# Altium integrated library ST Microcontroller 16-Bit.IntLib: 21 symbols (part 1 of 2)
Pins are listed as number, name and electrical type; pins without a type are passive.

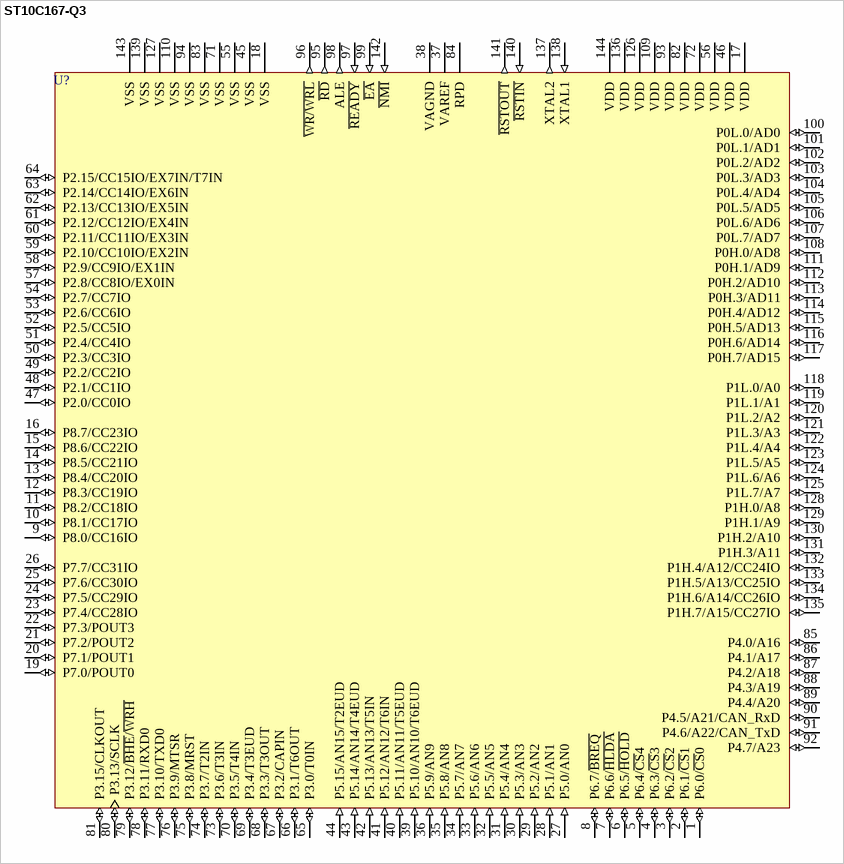
[diagram p0: symbol ST10C167-Q3]

## ST10C167-Q3
designator U?
16-Bit MCU with 32k ROM, 144-Pin PQFP; Published: 26-May-2004; DatasheetDocument: Jan-2002; PackageDocument: Jun-2002; PackageReference: PQFP144; Publisher: Altium Limited; Code_IPC: QFP28X28-144
footprint PQFP144 (QFP; 144 Leads; Body 28 x 28 mm; Pitch 0.65 mm)
pins: 1 P6.0/~{CS}0 (io), 2 P6.1/~{CS}1 (io), 3 P6.2/~{CS}2 (io), 4 P6.3/~{CS}3 (io), 5 P6.4/~{CS}4 (io), 6 P6.5/~{HOLD} (io), 7 P6.6/~{HLDA} (io), 8 P6.7/~{BREQ} (io), 9 P8.0/CC16IO (io), 10 P8.1/CC17IO (io), 11 P8.2/CC18IO (io), 12 P8.3/CC19IO (io), 13 P8.4/CC20IO (io), 14 P8.5/CC21IO (io), 15 P8.6/CC22IO (io), 16 P8.7/CC23IO (io), 17 VDD (power), 18 VSS (power), 19 P7.0/POUT0 (io), 20 P7.1/POUT1 (io), 21 P7.2/POUT2 (io), 22 P7.3/POUT3 (io), 23 P7.4/CC28IO (io), 24 P7.5/CC29IO (io), 25 P7.6/CC30IO (io), 26 P7.7/CC31IO (io), 27 P5.0/AN0 (in), 28 P5.1/AN1 (in), 29 P5.2/AN2 (in), 30 P5.3/AN3 (in), 31 P5.4/AN4 (in), 32 P5.5/AN5 (in), 33 P5.6/AN6 (in), 34 P5.7/AN7 (in), 35 P5.8/AN8 (in), 36 P5.9/AN9 (in), 37 VAREF (power), 38 VAGND (power), 39 P5.10/AN10/T6EUD (in), 40 P5.11/AN11/T5EUD (in), 41 P5.12/AN12/T6IN (in), 42 P5.13/AN13/T5IN (in), 43 P5.14/AN14/T4EUD (in), 44 P5.15/AN15/T2EUD (in), 45 VSS (power), 46 VDD (power), 47 P2.0/CC0IO (io), 48 P2.1/CC1IO (io), 49 P2.2/CC2IO (io), 50 P2.3/CC3IO (io), 51 P2.4/CC4IO (io), 52 P2.5/CC5IO (io), 53 P2.6/CC6IO (io), 54 P2.7/CC7IO (io), 55 VSS (power), 56 VDD (power), 57 P2.8/CC8IO/EX0IN (io), 58 P2.9/CC9IO/EX1IN (io), 59 P2.10/CC10IO/EX2IN (io), 60 P2.11/CC11IO/EX3IN (io), 61 P2.12/CC12IO/EX4IN (io), 62 P2.13/CC13IO/EX5IN (io), 63 P2.14/CC14IO/EX6IN (io), 64 P2.15/CC15IO/EX7IN/T7IN (io), 65 P3.0/T0IN (io), 66 P3.1/T6OUT (io), 67 P3.2/CAPIN (io), 68 P3.3/T3OUT (io), 69 P3.4/T3EUD (io), 70 P3.5/T4IN (io), 71 VSS (power), 72 VDD (power), 73 P3.6/T3IN (io), 74 P3.7/T2IN (io), 75 P3.8/MRST (io), 76 P3.9/MTSR (io), 77 P3.10/TXD0 (io), 78 P3.11/RXD0 (io), 79 P3.12/~{BHE}/~{WRH} (io), 80 P3.13/SCLK (io), 81 P3.15/CLKOUT (io), 82 VDD (power), 83 VSS (power), 84 RPD (power), 85 P4.0/A16 (io), 86 P4.1/A17 (io), 87 P4.2/A18 (io), 88 P4.3/A19 (io), 89 P4.4/A20 (io), 90 P4.5/A21/CAN_RxD (io), 91 P4.6/A22/CAN_TxD (io), 92 P4.7/A23 (io), 93 VDD (power), 94 VSS (power), 95 ~{RD} (out), 96 ~{WR/WRL} (out), 97 ~{READY} (in), 98 ALE (out), 99 ~{EA} (in), 100 P0L.0/AD0 (io), 101 P0L.1/AD1 (io), 102 P0L.2/AD2 (io), 103 P0L.3/AD3 (io), 104 P0L.4/AD4 (io), 105 P0L.5/AD5 (io), 106 P0L.6/AD6 (io), 107 P0L.7/AD7 (io), 108 P0H.0/AD8 (io), 109 VDD (power), 110 VSS (power), 111 P0H.1/AD9 (io), 112 P0H.2/AD10 (io), 113 P0H.3/AD11 (io), 114 P0H.4/AD12 (io), 115 P0H.5/AD13 (io), 116 P0H.6/AD14 (io), 117 P0H.7/AD15 (io), 118 P1L.0/A0 (io), 119 P1L.1/A1 (io), 120 P1L.2/A2 (io), 121 P1L.3/A3 (io), 122 P1L.4/A4 (io), 123 P1L.5/A5 (io), 124 P1L.6/A6 (io), 125 P1L.7/A7 (io), 126 VDD (power), 127 VSS (power), 128 P1H.0/A8 (io), 129 P1H.1/A9 (io), 130 P1H.2/A10 (io), 131 P1H.3/A11 (io), 132 P1H.4/A12/CC24IO (io), 133 P1H.5/A13/CC25IO (io), 134 P1H.6/A14/CC26IO (io), 135 P1H.7/A15/CC27IO (io), 136 VDD (power), 137 XTAL2 (out), 138 XTAL1 (in), 139 VSS (power), 140 ~{RSTIN} (in), 141 ~{RSTOUT} (out), 142 ~{NMI} (in), 143 VSS (power), 144 VDD (power)

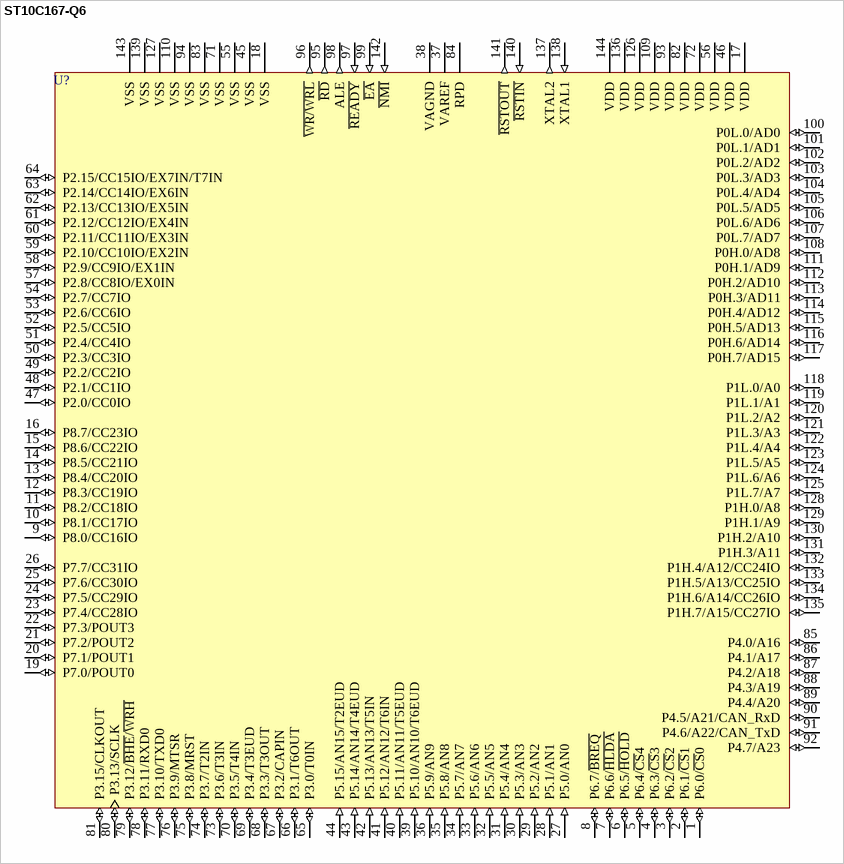
[diagram p1: symbol ST10C167-Q6]

## ST10C167-Q6
designator U?
16-Bit MCU with 32k ROM, 144-Pin PQFP; Published: 26-May-2004; DatasheetDocument: Jan-2002; PackageDocument: Jun-2002; PackageReference: PQFP144; Publisher: Altium Limited; Code_IPC: QFP28X28-144
footprint PQFP144 (QFP; 144 Leads; Body 28 x 28 mm; Pitch 0.65 mm)
pins: 1 P6.0/~{CS}0 (io), 2 P6.1/~{CS}1 (io), 3 P6.2/~{CS}2 (io), 4 P6.3/~{CS}3 (io), 5 P6.4/~{CS}4 (io), 6 P6.5/~{HOLD} (io), 7 P6.6/~{HLDA} (io), 8 P6.7/~{BREQ} (io), 9 P8.0/CC16IO (io), 10 P8.1/CC17IO (io), 11 P8.2/CC18IO (io), 12 P8.3/CC19IO (io), 13 P8.4/CC20IO (io), 14 P8.5/CC21IO (io), 15 P8.6/CC22IO (io), 16 P8.7/CC23IO (io), 17 VDD (power), 18 VSS (power), 19 P7.0/POUT0 (io), 20 P7.1/POUT1 (io), 21 P7.2/POUT2 (io), 22 P7.3/POUT3 (io), 23 P7.4/CC28IO (io), 24 P7.5/CC29IO (io), 25 P7.6/CC30IO (io), 26 P7.7/CC31IO (io), 27 P5.0/AN0 (in), 28 P5.1/AN1 (in), 29 P5.2/AN2 (in), 30 P5.3/AN3 (in), 31 P5.4/AN4 (in), 32 P5.5/AN5 (in), 33 P5.6/AN6 (in), 34 P5.7/AN7 (in), 35 P5.8/AN8 (in), 36 P5.9/AN9 (in), 37 VAREF (power), 38 VAGND (power), 39 P5.10/AN10/T6EUD (in), 40 P5.11/AN11/T5EUD (in), 41 P5.12/AN12/T6IN (in), 42 P5.13/AN13/T5IN (in), 43 P5.14/AN14/T4EUD (in), 44 P5.15/AN15/T2EUD (in), 45 VSS (power), 46 VDD (power), 47 P2.0/CC0IO (io), 48 P2.1/CC1IO (io), 49 P2.2/CC2IO (io), 50 P2.3/CC3IO (io), 51 P2.4/CC4IO (io), 52 P2.5/CC5IO (io), 53 P2.6/CC6IO (io), 54 P2.7/CC7IO (io), 55 VSS (power), 56 VDD (power), 57 P2.8/CC8IO/EX0IN (io), 58 P2.9/CC9IO/EX1IN (io), 59 P2.10/CC10IO/EX2IN (io), 60 P2.11/CC11IO/EX3IN (io), 61 P2.12/CC12IO/EX4IN (io), 62 P2.13/CC13IO/EX5IN (io), 63 P2.14/CC14IO/EX6IN (io), 64 P2.15/CC15IO/EX7IN/T7IN (io), 65 P3.0/T0IN (io), 66 P3.1/T6OUT (io), 67 P3.2/CAPIN (io), 68 P3.3/T3OUT (io), 69 P3.4/T3EUD (io), 70 P3.5/T4IN (io), 71 VSS (power), 72 VDD (power), 73 P3.6/T3IN (io), 74 P3.7/T2IN (io), 75 P3.8/MRST (io), 76 P3.9/MTSR (io), 77 P3.10/TXD0 (io), 78 P3.11/RXD0 (io), 79 P3.12/~{BHE}/~{WRH} (io), 80 P3.13/SCLK (io), 81 P3.15/CLKOUT (io), 82 VDD (power), 83 VSS (power), 84 RPD (power), 85 P4.0/A16 (io), 86 P4.1/A17 (io), 87 P4.2/A18 (io), 88 P4.3/A19 (io), 89 P4.4/A20 (io), 90 P4.5/A21/CAN_RxD (io), 91 P4.6/A22/CAN_TxD (io), 92 P4.7/A23 (io), 93 VDD (power), 94 VSS (power), 95 ~{RD} (out), 96 ~{WR/WRL} (out), 97 ~{READY} (in), 98 ALE (out), 99 ~{EA} (in), 100 P0L.0/AD0 (io), 101 P0L.1/AD1 (io), 102 P0L.2/AD2 (io), 103 P0L.3/AD3 (io), 104 P0L.4/AD4 (io), 105 P0L.5/AD5 (io), 106 P0L.6/AD6 (io), 107 P0L.7/AD7 (io), 108 P0H.0/AD8 (io), 109 VDD (power), 110 VSS (power), 111 P0H.1/AD9 (io), 112 P0H.2/AD10 (io), 113 P0H.3/AD11 (io), 114 P0H.4/AD12 (io), 115 P0H.5/AD13 (io), 116 P0H.6/AD14 (io), 117 P0H.7/AD15 (io), 118 P1L.0/A0 (io), 119 P1L.1/A1 (io), 120 P1L.2/A2 (io), 121 P1L.3/A3 (io), 122 P1L.4/A4 (io), 123 P1L.5/A5 (io), 124 P1L.6/A6 (io), 125 P1L.7/A7 (io), 126 VDD (power), 127 VSS (power), 128 P1H.0/A8 (io), 129 P1H.1/A9 (io), 130 P1H.2/A10 (io), 131 P1H.3/A11 (io), 132 P1H.4/A12/CC24IO (io), 133 P1H.5/A13/CC25IO (io), 134 P1H.6/A14/CC26IO (io), 135 P1H.7/A15/CC27IO (io), 136 VDD (power), 137 XTAL2 (out), 138 XTAL1 (in), 139 VSS (power), 140 ~{RSTIN} (in), 141 ~{RSTOUT} (out), 142 ~{NMI} (in), 143 VSS (power), 144 VDD (power)

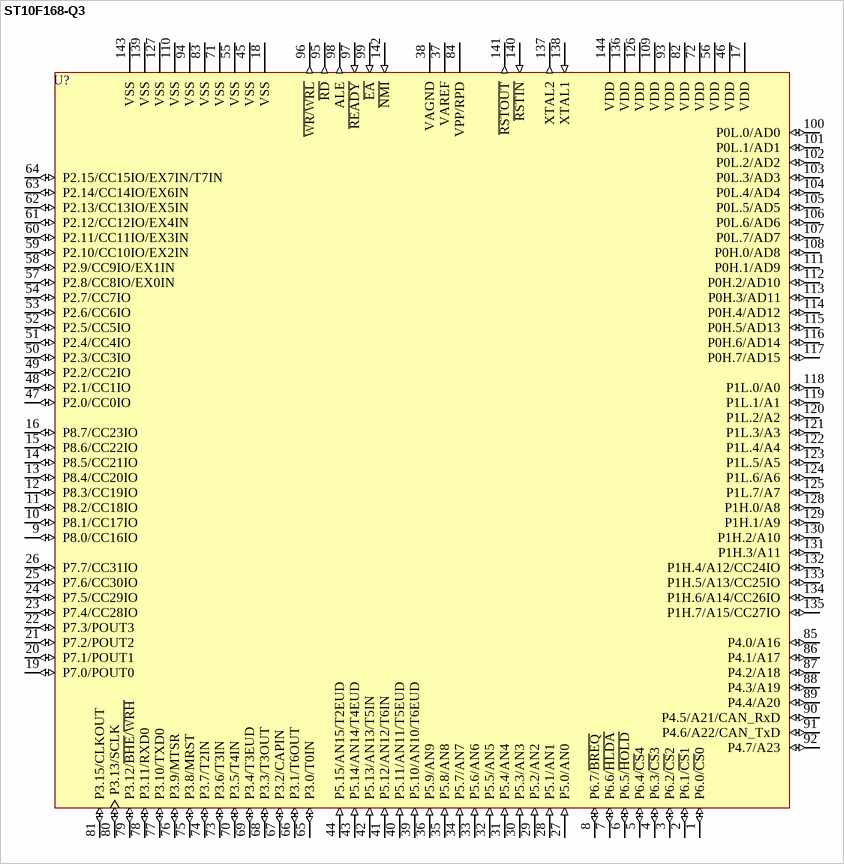
[diagram p2: symbol ST10F168-Q3]

## ST10F168-Q3
designator U?
16-Bit MCU with 256k FLASH Memory and 8k RAM, 144-Pin PQFP; Published: 26-May-2004; DatasheetDocument: Jan-2002; PackageDocument: Jun-2002; PackageReference: PQFP144; Publisher: Altium Limited; Code_IPC: QFP28X28-144
footprint PQFP144 (QFP; 144 Leads; Body 28 x 28 mm; Pitch 0.65 mm)
pins: 1 P6.0/~{CS}0 (io), 2 P6.1/~{CS}1 (io), 3 P6.2/~{CS}2 (io), 4 P6.3/~{CS}3 (io), 5 P6.4/~{CS}4 (io), 6 P6.5/~{HOLD} (io), 7 P6.6/~{HLDA} (io), 8 P6.7/~{BREQ} (io), 9 P8.0/CC16IO (io), 10 P8.1/CC17IO (io), 11 P8.2/CC18IO (io), 12 P8.3/CC19IO (io), 13 P8.4/CC20IO (io), 14 P8.5/CC21IO (io), 15 P8.6/CC22IO (io), 16 P8.7/CC23IO (io), 17 VDD (power), 18 VSS (power), 19 P7.0/POUT0 (io), 20 P7.1/POUT1 (io), 21 P7.2/POUT2 (io), 22 P7.3/POUT3 (io), 23 P7.4/CC28IO (io), 24 P7.5/CC29IO (io), 25 P7.6/CC30IO (io), 26 P7.7/CC31IO (io), 27 P5.0/AN0 (in), 28 P5.1/AN1 (in), 29 P5.2/AN2 (in), 30 P5.3/AN3 (in), 31 P5.4/AN4 (in), 32 P5.5/AN5 (in), 33 P5.6/AN6 (in), 34 P5.7/AN7 (in), 35 P5.8/AN8 (in), 36 P5.9/AN9 (in), 37 VAREF (power), 38 VAGND (power), 39 P5.10/AN10/T6EUD (in), 40 P5.11/AN11/T5EUD (in), 41 P5.12/AN12/T6IN (in), 42 P5.13/AN13/T5IN (in), 43 P5.14/AN14/T4EUD (in), 44 P5.15/AN15/T2EUD (in), 45 VSS (power), 46 VDD (power), 47 P2.0/CC0IO (io), 48 P2.1/CC1IO (io), 49 P2.2/CC2IO (io), 50 P2.3/CC3IO (io), 51 P2.4/CC4IO (io), 52 P2.5/CC5IO (io), 53 P2.6/CC6IO (io), 54 P2.7/CC7IO (io), 55 VSS (power), 56 VDD (power), 57 P2.8/CC8IO/EX0IN (io), 58 P2.9/CC9IO/EX1IN (io), 59 P2.10/CC10IO/EX2IN (io), 60 P2.11/CC11IO/EX3IN (io), 61 P2.12/CC12IO/EX4IN (io), 62 P2.13/CC13IO/EX5IN (io), 63 P2.14/CC14IO/EX6IN (io), 64 P2.15/CC15IO/EX7IN/T7IN (io), 65 P3.0/T0IN (io), 66 P3.1/T6OUT (io), 67 P3.2/CAPIN (io), 68 P3.3/T3OUT (io), 69 P3.4/T3EUD (io), 70 P3.5/T4IN (io), 71 VSS (power), 72 VDD (power), 73 P3.6/T3IN (io), 74 P3.7/T2IN (io), 75 P3.8/MRST (io), 76 P3.9/MTSR (io), 77 P3.10/TXD0 (io), 78 P3.11/RXD0 (io), 79 P3.12/~{BHE}/~{WRH} (io), 80 P3.13/SCLK (io), 81 P3.15/CLKOUT (io), 82 VDD (power), 83 VSS (power), 84 VPP/RPD (power), 85 P4.0/A16 (io), 86 P4.1/A17 (io), 87 P4.2/A18 (io), 88 P4.3/A19 (io), 89 P4.4/A20 (io), 90 P4.5/A21/CAN_RxD (io), 91 P4.6/A22/CAN_TxD (io), 92 P4.7/A23 (io), 93 VDD (power), 94 VSS (power), 95 ~{RD} (out), 96 ~{WR/WRL} (out), 97 ~{READY} (in), 98 ALE (out), 99 ~{EA} (in), 100 P0L.0/AD0 (io), 101 P0L.1/AD1 (io), 102 P0L.2/AD2 (io), 103 P0L.3/AD3 (io), 104 P0L.4/AD4 (io), 105 P0L.5/AD5 (io), 106 P0L.6/AD6 (io), 107 P0L.7/AD7 (io), 108 P0H.0/AD8 (io), 109 VDD (power), 110 VSS (power), 111 P0H.1/AD9 (io), 112 P0H.2/AD10 (io), 113 P0H.3/AD11 (io), 114 P0H.4/AD12 (io), 115 P0H.5/AD13 (io), 116 P0H.6/AD14 (io), 117 P0H.7/AD15 (io), 118 P1L.0/A0 (io), 119 P1L.1/A1 (io), 120 P1L.2/A2 (io), 121 P1L.3/A3 (io), 122 P1L.4/A4 (io), 123 P1L.5/A5 (io), 124 P1L.6/A6 (io), 125 P1L.7/A7 (io), 126 VDD (power), 127 VSS (power), 128 P1H.0/A8 (io), 129 P1H.1/A9 (io), 130 P1H.2/A10 (io), 131 P1H.3/A11 (io), 132 P1H.4/A12/CC24IO (io), 133 P1H.5/A13/CC25IO (io), 134 P1H.6/A14/CC26IO (io), 135 P1H.7/A15/CC27IO (io), 136 VDD (power), 137 XTAL2 (out), 138 XTAL1 (in), 139 VSS (power), 140 ~{RSTIN} (in), 141 ~{RSTOUT} (out), 142 ~{NMI} (in), 143 VSS (power), 144 VDD (power)

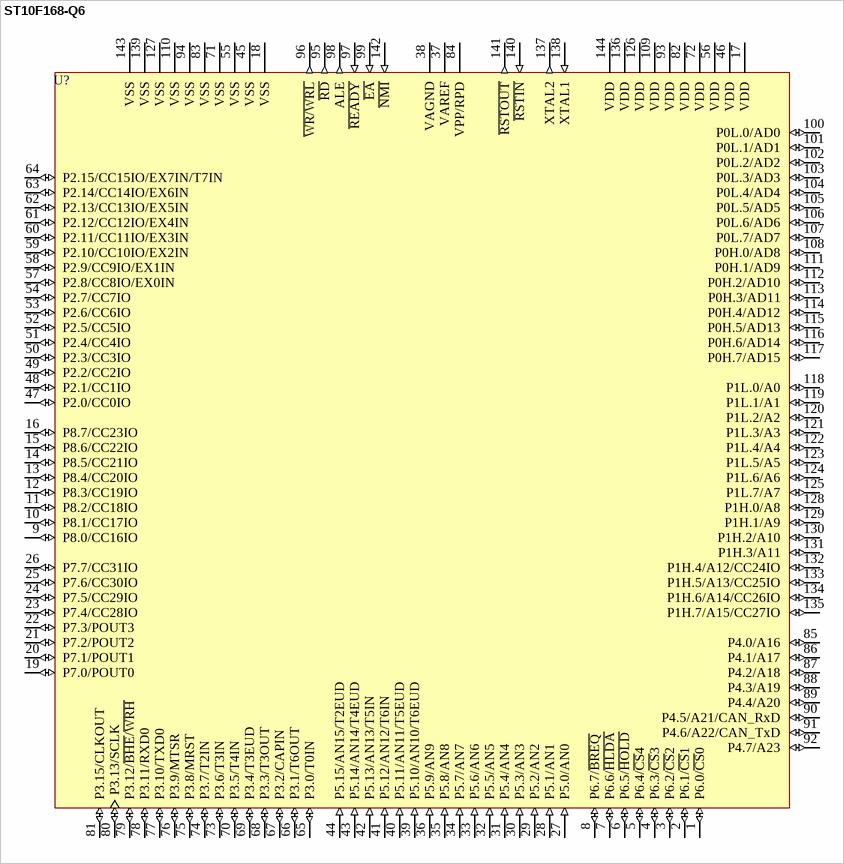
[diagram p3: symbol ST10F168-Q6]

## ST10F168-Q6
designator U?
16-Bit MCU with 256k FLASH Memory and 8k RAM, 144-Pin PQFP; Published: 26-May-2004; DatasheetDocument: Jan-2002; PackageDocument: Jun-2002; PackageReference: PQFP144; Publisher: Altium Limited; Code_IPC: QFP28X28-144
footprint PQFP144 (QFP; 144 Leads; Body 28 x 28 mm; Pitch 0.65 mm)
pins: 1 P6.0/~{CS}0 (io), 2 P6.1/~{CS}1 (io), 3 P6.2/~{CS}2 (io), 4 P6.3/~{CS}3 (io), 5 P6.4/~{CS}4 (io), 6 P6.5/~{HOLD} (io), 7 P6.6/~{HLDA} (io), 8 P6.7/~{BREQ} (io), 9 P8.0/CC16IO (io), 10 P8.1/CC17IO (io), 11 P8.2/CC18IO (io), 12 P8.3/CC19IO (io), 13 P8.4/CC20IO (io), 14 P8.5/CC21IO (io), 15 P8.6/CC22IO (io), 16 P8.7/CC23IO (io), 17 VDD (power), 18 VSS (power), 19 P7.0/POUT0 (io), 20 P7.1/POUT1 (io), 21 P7.2/POUT2 (io), 22 P7.3/POUT3 (io), 23 P7.4/CC28IO (io), 24 P7.5/CC29IO (io), 25 P7.6/CC30IO (io), 26 P7.7/CC31IO (io), 27 P5.0/AN0 (in), 28 P5.1/AN1 (in), 29 P5.2/AN2 (in), 30 P5.3/AN3 (in), 31 P5.4/AN4 (in), 32 P5.5/AN5 (in), 33 P5.6/AN6 (in), 34 P5.7/AN7 (in), 35 P5.8/AN8 (in), 36 P5.9/AN9 (in), 37 VAREF (power), 38 VAGND (power), 39 P5.10/AN10/T6EUD (in), 40 P5.11/AN11/T5EUD (in), 41 P5.12/AN12/T6IN (in), 42 P5.13/AN13/T5IN (in), 43 P5.14/AN14/T4EUD (in), 44 P5.15/AN15/T2EUD (in), 45 VSS (power), 46 VDD (power), 47 P2.0/CC0IO (io), 48 P2.1/CC1IO (io), 49 P2.2/CC2IO (io), 50 P2.3/CC3IO (io), 51 P2.4/CC4IO (io), 52 P2.5/CC5IO (io), 53 P2.6/CC6IO (io), 54 P2.7/CC7IO (io), 55 VSS (power), 56 VDD (power), 57 P2.8/CC8IO/EX0IN (io), 58 P2.9/CC9IO/EX1IN (io), 59 P2.10/CC10IO/EX2IN (io), 60 P2.11/CC11IO/EX3IN (io), 61 P2.12/CC12IO/EX4IN (io), 62 P2.13/CC13IO/EX5IN (io), 63 P2.14/CC14IO/EX6IN (io), 64 P2.15/CC15IO/EX7IN/T7IN (io), 65 P3.0/T0IN (io), 66 P3.1/T6OUT (io), 67 P3.2/CAPIN (io), 68 P3.3/T3OUT (io), 69 P3.4/T3EUD (io), 70 P3.5/T4IN (io), 71 VSS (power), 72 VDD (power), 73 P3.6/T3IN (io), 74 P3.7/T2IN (io), 75 P3.8/MRST (io), 76 P3.9/MTSR (io), 77 P3.10/TXD0 (io), 78 P3.11/RXD0 (io), 79 P3.12/~{BHE}/~{WRH} (io), 80 P3.13/SCLK (io), 81 P3.15/CLKOUT (io), 82 VDD (power), 83 VSS (power), 84 VPP/RPD (power), 85 P4.0/A16 (io), 86 P4.1/A17 (io), 87 P4.2/A18 (io), 88 P4.3/A19 (io), 89 P4.4/A20 (io), 90 P4.5/A21/CAN_RxD (io), 91 P4.6/A22/CAN_TxD (io), 92 P4.7/A23 (io), 93 VDD (power), 94 VSS (power), 95 ~{RD} (out), 96 ~{WR/WRL} (out), 97 ~{READY} (in), 98 ALE (out), 99 ~{EA} (in), 100 P0L.0/AD0 (io), 101 P0L.1/AD1 (io), 102 P0L.2/AD2 (io), 103 P0L.3/AD3 (io), 104 P0L.4/AD4 (io), 105 P0L.5/AD5 (io), 106 P0L.6/AD6 (io), 107 P0L.7/AD7 (io), 108 P0H.0/AD8 (io), 109 VDD (power), 110 VSS (power), 111 P0H.1/AD9 (io), 112 P0H.2/AD10 (io), 113 P0H.3/AD11 (io), 114 P0H.4/AD12 (io), 115 P0H.5/AD13 (io), 116 P0H.6/AD14 (io), 117 P0H.7/AD15 (io), 118 P1L.0/A0 (io), 119 P1L.1/A1 (io), 120 P1L.2/A2 (io), 121 P1L.3/A3 (io), 122 P1L.4/A4 (io), 123 P1L.5/A5 (io), 124 P1L.6/A6 (io), 125 P1L.7/A7 (io), 126 VDD (power), 127 VSS (power), 128 P1H.0/A8 (io), 129 P1H.1/A9 (io), 130 P1H.2/A10 (io), 131 P1H.3/A11 (io), 132 P1H.4/A12/CC24IO (io), 133 P1H.5/A13/CC25IO (io), 134 P1H.6/A14/CC26IO (io), 135 P1H.7/A15/CC27IO (io), 136 VDD (power), 137 XTAL2 (out), 138 XTAL1 (in), 139 VSS (power), 140 ~{RSTIN} (in), 141 ~{RSTOUT} (out), 142 ~{NMI} (in), 143 VSS (power), 144 VDD (power)

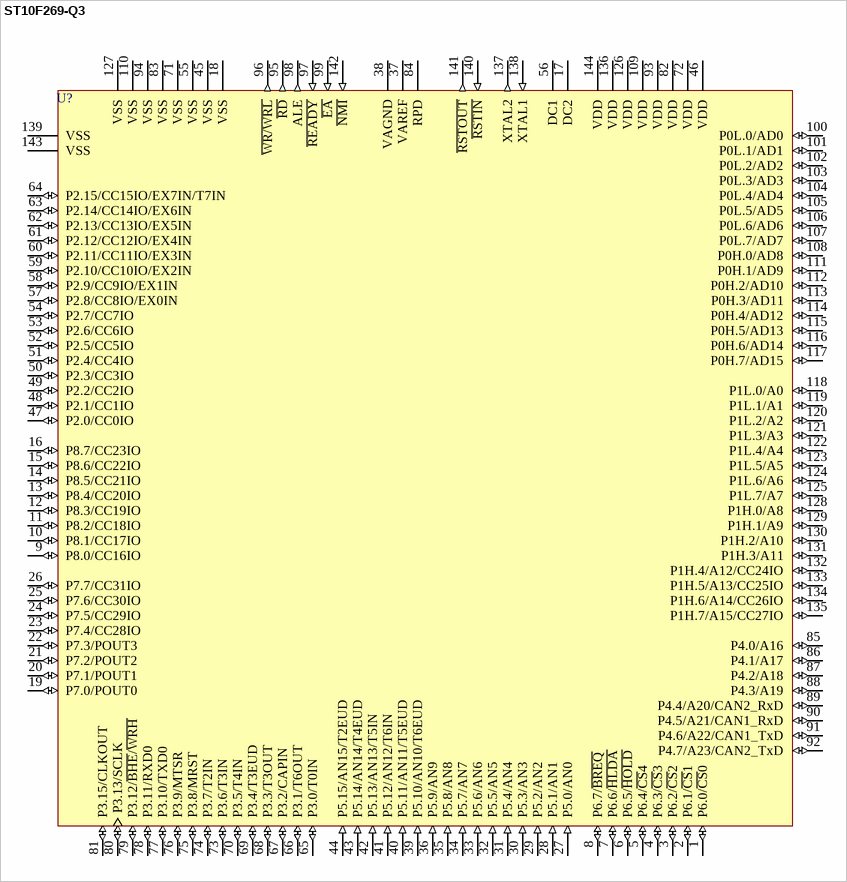
[diagram p4: symbol ST10F269-Q3]

## ST10F269-Q3
designator U?
16-Bit MCU with MAC Unit, 128k FLASH Memory and 12k RAM, 144-Pin PQFP; Published: 26-May-2004; DatasheetDocument: Jun-2002; PackageDocument: Jun-2002; PackageReference: PQFP144; Publisher: Altium Limited; Code_IPC: QFP28X28-144
footprint PQFP144 (QFP; 144 Leads; Body 28 x 28 mm; Pitch 0.65 mm)
pins: 1 P6.0/~{CS}0 (io), 2 P6.1/~{CS}1 (io), 3 P6.2/~{CS}2 (io), 4 P6.3/~{CS}3 (io), 5 P6.4/~{CS}4 (io), 6 P6.5/~{HOLD} (io), 7 P6.6/~{HLDA} (io), 8 P6.7/~{BREQ} (io), 9 P8.0/CC16IO (io), 10 P8.1/CC17IO (io), 11 P8.2/CC18IO (io), 12 P8.3/CC19IO (io), 13 P8.4/CC20IO (io), 14 P8.5/CC21IO (io), 15 P8.6/CC22IO (io), 16 P8.7/CC23IO (io), 17 DC2 (power), 18 VSS (power), 19 P7.0/POUT0 (io), 20 P7.1/POUT1 (io), 21 P7.2/POUT2 (io), 22 P7.3/POUT3 (io), 23 P7.4/CC28IO (io), 24 P7.5/CC29IO (io), 25 P7.6/CC30IO (io), 26 P7.7/CC31IO (io), 27 P5.0/AN0 (in), 28 P5.1/AN1 (in), 29 P5.2/AN2 (in), 30 P5.3/AN3 (in), 31 P5.4/AN4 (in), 32 P5.5/AN5 (in), 33 P5.6/AN6 (in), 34 P5.7/AN7 (in), 35 P5.8/AN8 (in), 36 P5.9/AN9 (in), 37 VAREF (power), 38 VAGND (power), 39 P5.10/AN10/T6EUD (in), 40 P5.11/AN11/T5EUD (in), 41 P5.12/AN12/T6IN (in), 42 P5.13/AN13/T5IN (in), 43 P5.14/AN14/T4EUD (in), 44 P5.15/AN15/T2EUD (in), 45 VSS (power), 46 VDD (power), 47 P2.0/CC0IO (io), 48 P2.1/CC1IO (io), 49 P2.2/CC2IO (io), 50 P2.3/CC3IO (io), 51 P2.4/CC4IO (io), 52 P2.5/CC5IO (io), 53 P2.6/CC6IO (io), 54 P2.7/CC7IO (io), 55 VSS (power), 56 DC1 (power), 57 P2.8/CC8IO/EX0IN (io), 58 P2.9/CC9IO/EX1IN (io), 59 P2.10/CC10IO/EX2IN (io), 60 P2.11/CC11IO/EX3IN (io), 61 P2.12/CC12IO/EX4IN (io), 62 P2.13/CC13IO/EX5IN (io), 63 P2.14/CC14IO/EX6IN (io), 64 P2.15/CC15IO/EX7IN/T7IN (io), 65 P3.0/T0IN (io), 66 P3.1/T6OUT (io), 67 P3.2/CAPIN (io), 68 P3.3/T3OUT (io), 69 P3.4/T3EUD (io), 70 P3.5/T4IN (io), 71 VSS (power), 72 VDD (power), 73 P3.6/T3IN (io), 74 P3.7/T2IN (io), 75 P3.8/MRST (io), 76 P3.9/MTSR (io), 77 P3.10/TXD0 (io), 78 P3.11/RXD0 (io), 79 P3.12/~{BHE}/~{WRH} (io), 80 P3.13/SCLK (io), 81 P3.15/CLKOUT (io), 82 VDD (power), 83 VSS (power), 84 RPD (power), 85 P4.0/A16 (io), 86 P4.1/A17 (io), 87 P4.2/A18 (io), 88 P4.3/A19 (io), 89 P4.4/A20/CAN2_RxD (io), 90 P4.5/A21/CAN1_RxD (io), 91 P4.6/A22/CAN1_TxD (io), 92 P4.7/A23/CAN2_TxD (io), 93 VDD (power), 94 VSS (power), 95 ~{RD} (out), 96 ~{WR/WRL} (out), 97 ~{READY} (in), 98 ALE (out), 99 ~{EA} (in), 100 P0L.0/AD0 (io), 101 P0L.1/AD1 (io), 102 P0L.2/AD2 (io), 103 P0L.3/AD3 (io), 104 P0L.4/AD4 (io), 105 P0L.5/AD5 (io), 106 P0L.6/AD6 (io), 107 P0L.7/AD7 (io), 108 P0H.0/AD8 (io), 109 VDD (power), 110 VSS (power), 111 P0H.1/AD9 (io), 112 P0H.2/AD10 (io), 113 P0H.3/AD11 (io), 114 P0H.4/AD12 (io), 115 P0H.5/AD13 (io), 116 P0H.6/AD14 (io), 117 P0H.7/AD15 (io), 118 P1L.0/A0 (io), 119 P1L.1/A1 (io), 120 P1L.2/A2 (io), 121 P1L.3/A3 (io), 122 P1L.4/A4 (io), 123 P1L.5/A5 (io), 124 P1L.6/A6 (io), 125 P1L.7/A7 (io), 126 VDD (power), 127 VSS (power), 128 P1H.0/A8 (io), 129 P1H.1/A9 (io), 130 P1H.2/A10 (io), 131 P1H.3/A11 (io), 132 P1H.4/A12/CC24IO (io), 133 P1H.5/A13/CC25IO (io), 134 P1H.6/A14/CC26IO (io), 135 P1H.7/A15/CC27IO (io), 136 VDD (power), 137 XTAL2 (out), 138 XTAL1 (in), 139 VSS (power), 140 ~{RSTIN} (in), 141 ~{RSTOUT} (out), 142 ~{NMI} (in), 143 VSS (power), 144 VDD (power)

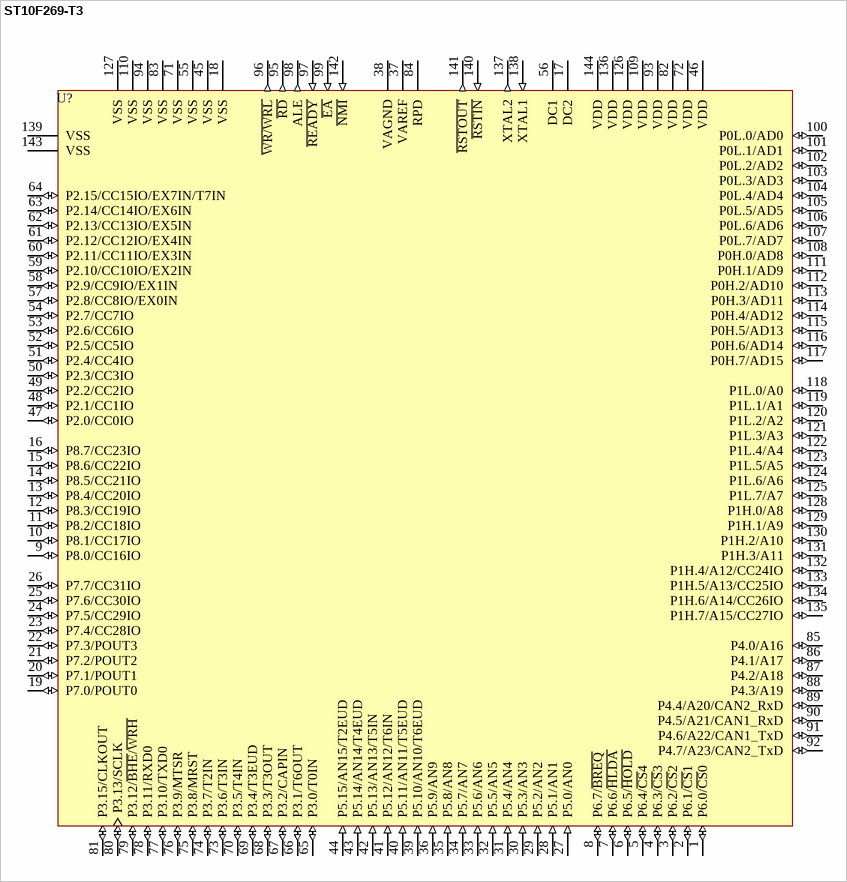
[diagram p5: symbol ST10F269-T3]

## ST10F269-T3
designator U?
16-Bit MCU with MAC Unit, 256k FLASH Memory and 12k RAM, 144-Pin TQFP; Published: 26-May-2004; DatasheetDocument: Mar-2003; PackageDocument: Mar-2003; PackageReference: TQFP144; Publisher: Altium Limited; Code_IPC: SQFP20X20-144
footprint TQFP144 (QFP; 144 Leads; Body 20 x 20 mm; Pitch 0.5 mm)
pins: 1 P6.0/~{CS}0 (io), 2 P6.1/~{CS}1 (io), 3 P6.2/~{CS}2 (io), 4 P6.3/~{CS}3 (io), 5 P6.4/~{CS}4 (io), 6 P6.5/~{HOLD} (io), 7 P6.6/~{HLDA} (io), 8 P6.7/~{BREQ} (io), 9 P8.0/CC16IO (io), 10 P8.1/CC17IO (io), 11 P8.2/CC18IO (io), 12 P8.3/CC19IO (io), 13 P8.4/CC20IO (io), 14 P8.5/CC21IO (io), 15 P8.6/CC22IO (io), 16 P8.7/CC23IO (io), 17 DC2 (power), 18 VSS (power), 19 P7.0/POUT0 (io), 20 P7.1/POUT1 (io), 21 P7.2/POUT2 (io), 22 P7.3/POUT3 (io), 23 P7.4/CC28IO (io), 24 P7.5/CC29IO (io), 25 P7.6/CC30IO (io), 26 P7.7/CC31IO (io), 27 P5.0/AN0 (in), 28 P5.1/AN1 (in), 29 P5.2/AN2 (in), 30 P5.3/AN3 (in), 31 P5.4/AN4 (in), 32 P5.5/AN5 (in), 33 P5.6/AN6 (in), 34 P5.7/AN7 (in), 35 P5.8/AN8 (in), 36 P5.9/AN9 (in), 37 VAREF (power), 38 VAGND (power), 39 P5.10/AN10/T6EUD (in), 40 P5.11/AN11/T5EUD (in), 41 P5.12/AN12/T6IN (in), 42 P5.13/AN13/T5IN (in), 43 P5.14/AN14/T4EUD (in), 44 P5.15/AN15/T2EUD (in), 45 VSS (power), 46 VDD (power), 47 P2.0/CC0IO (io), 48 P2.1/CC1IO (io), 49 P2.2/CC2IO (io), 50 P2.3/CC3IO (io), 51 P2.4/CC4IO (io), 52 P2.5/CC5IO (io), 53 P2.6/CC6IO (io), 54 P2.7/CC7IO (io), 55 VSS (power), 56 DC1 (power), 57 P2.8/CC8IO/EX0IN (io), 58 P2.9/CC9IO/EX1IN (io), 59 P2.10/CC10IO/EX2IN (io), 60 P2.11/CC11IO/EX3IN (io), 61 P2.12/CC12IO/EX4IN (io), 62 P2.13/CC13IO/EX5IN (io), 63 P2.14/CC14IO/EX6IN (io), 64 P2.15/CC15IO/EX7IN/T7IN (io), 65 P3.0/T0IN (io), 66 P3.1/T6OUT (io), 67 P3.2/CAPIN (io), 68 P3.3/T3OUT (io), 69 P3.4/T3EUD (io), 70 P3.5/T4IN (io), 71 VSS (power), 72 VDD (power), 73 P3.6/T3IN (io), 74 P3.7/T2IN (io), 75 P3.8/MRST (io), 76 P3.9/MTSR (io), 77 P3.10/TXD0 (io), 78 P3.11/RXD0 (io), 79 P3.12/~{BHE}/~{WRH} (io), 80 P3.13/SCLK (io), 81 P3.15/CLKOUT (io), 82 VDD (power), 83 VSS (power), 84 RPD (power), 85 P4.0/A16 (io), 86 P4.1/A17 (io), 87 P4.2/A18 (io), 88 P4.3/A19 (io), 89 P4.4/A20/CAN2_RxD (io), 90 P4.5/A21/CAN1_RxD (io), 91 P4.6/A22/CAN1_TxD (io), 92 P4.7/A23/CAN2_TxD (io), 93 VDD (power), 94 VSS (power), 95 ~{RD} (out), 96 ~{WR/WRL} (out), 97 ~{READY} (in), 98 ALE (out), 99 ~{EA} (in), 100 P0L.0/AD0 (io), 101 P0L.1/AD1 (io), 102 P0L.2/AD2 (io), 103 P0L.3/AD3 (io), 104 P0L.4/AD4 (io), 105 P0L.5/AD5 (io), 106 P0L.6/AD6 (io), 107 P0L.7/AD7 (io), 108 P0H.0/AD8 (io), 109 VDD (power), 110 VSS (power), 111 P0H.1/AD9 (io), 112 P0H.2/AD10 (io), 113 P0H.3/AD11 (io), 114 P0H.4/AD12 (io), 115 P0H.5/AD13 (io), 116 P0H.6/AD14 (io), 117 P0H.7/AD15 (io), 118 P1L.0/A0 (io), 119 P1L.1/A1 (io), 120 P1L.2/A2 (io), 121 P1L.3/A3 (io), 122 P1L.4/A4 (io), 123 P1L.5/A5 (io), 124 P1L.6/A6 (io), 125 P1L.7/A7 (io), 126 VDD (power), 127 VSS (power), 128 P1H.0/A8 (io), 129 P1H.1/A9 (io), 130 P1H.2/A10 (io), 131 P1H.3/A11 (io), 132 P1H.4/A12/CC24IO (io), 133 P1H.5/A13/CC25IO (io), 134 P1H.6/A14/CC26IO (io), 135 P1H.7/A15/CC27IO (io), 136 VDD (power), 137 XTAL2 (out), 138 XTAL1 (in), 139 VSS (power), 140 ~{RSTIN} (in), 141 ~{RSTOUT} (out), 142 ~{NMI} (in), 143 VSS (power), 144 VDD (power)

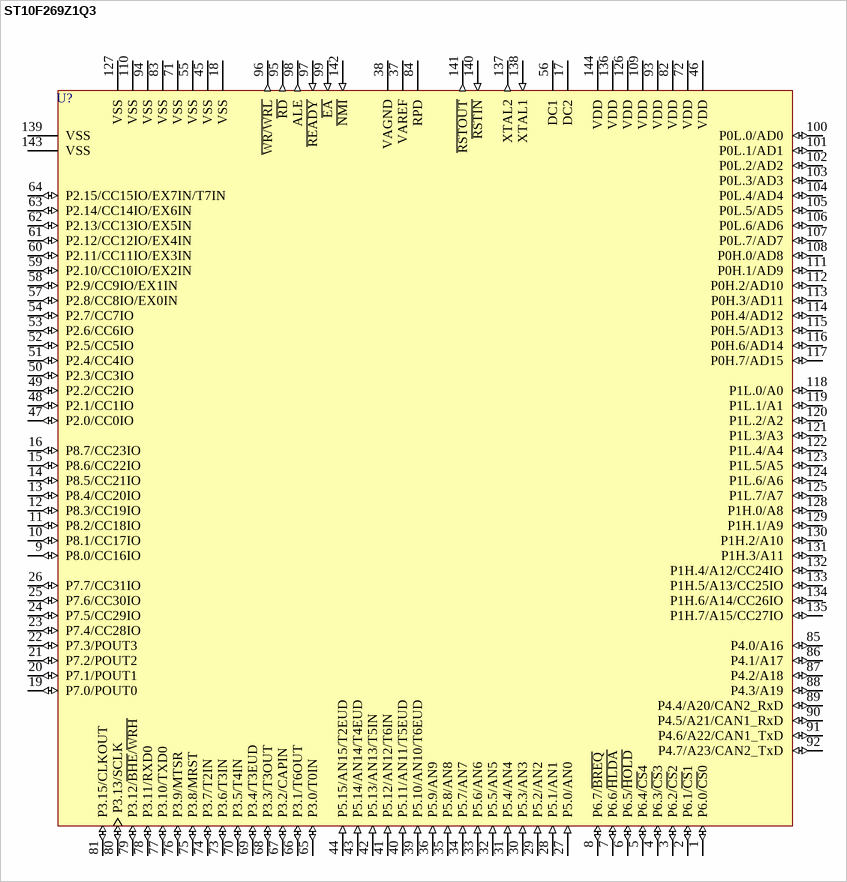
[diagram p6: symbol ST10F269Z1Q3]

## ST10F269Z1Q3
designator U?
16-Bit MCU with MAC Unit, 128k FLASH Memory and 12k RAM, 144-Pin PQFP; Published: 26-May-2004; DatasheetDocument: Sep-2003; PackageDocument: Jun-2002; PackageReference: PQFP144; Publisher: Altium Limited; Code_IPC: QFP28X28-144
footprint PQFP144 (QFP; 144 Leads; Body 28 x 28 mm; Pitch 0.65 mm)
pins: 1 P6.0/~{CS}0 (io), 2 P6.1/~{CS}1 (io), 3 P6.2/~{CS}2 (io), 4 P6.3/~{CS}3 (io), 5 P6.4/~{CS}4 (io), 6 P6.5/~{HOLD} (io), 7 P6.6/~{HLDA} (io), 8 P6.7/~{BREQ} (io), 9 P8.0/CC16IO (io), 10 P8.1/CC17IO (io), 11 P8.2/CC18IO (io), 12 P8.3/CC19IO (io), 13 P8.4/CC20IO (io), 14 P8.5/CC21IO (io), 15 P8.6/CC22IO (io), 16 P8.7/CC23IO (io), 17 DC2 (power), 18 VSS (power), 19 P7.0/POUT0 (io), 20 P7.1/POUT1 (io), 21 P7.2/POUT2 (io), 22 P7.3/POUT3 (io), 23 P7.4/CC28IO (io), 24 P7.5/CC29IO (io), 25 P7.6/CC30IO (io), 26 P7.7/CC31IO (io), 27 P5.0/AN0 (in), 28 P5.1/AN1 (in), 29 P5.2/AN2 (in), 30 P5.3/AN3 (in), 31 P5.4/AN4 (in), 32 P5.5/AN5 (in), 33 P5.6/AN6 (in), 34 P5.7/AN7 (in), 35 P5.8/AN8 (in), 36 P5.9/AN9 (in), 37 VAREF (power), 38 VAGND (power), 39 P5.10/AN10/T6EUD (in), 40 P5.11/AN11/T5EUD (in), 41 P5.12/AN12/T6IN (in), 42 P5.13/AN13/T5IN (in), 43 P5.14/AN14/T4EUD (in), 44 P5.15/AN15/T2EUD (in), 45 VSS (power), 46 VDD (power), 47 P2.0/CC0IO (io), 48 P2.1/CC1IO (io), 49 P2.2/CC2IO (io), 50 P2.3/CC3IO (io), 51 P2.4/CC4IO (io), 52 P2.5/CC5IO (io), 53 P2.6/CC6IO (io), 54 P2.7/CC7IO (io), 55 VSS (power), 56 DC1 (power), 57 P2.8/CC8IO/EX0IN (io), 58 P2.9/CC9IO/EX1IN (io), 59 P2.10/CC10IO/EX2IN (io), 60 P2.11/CC11IO/EX3IN (io), 61 P2.12/CC12IO/EX4IN (io), 62 P2.13/CC13IO/EX5IN (io), 63 P2.14/CC14IO/EX6IN (io), 64 P2.15/CC15IO/EX7IN/T7IN (io), 65 P3.0/T0IN (io), 66 P3.1/T6OUT (io), 67 P3.2/CAPIN (io), 68 P3.3/T3OUT (io), 69 P3.4/T3EUD (io), 70 P3.5/T4IN (io), 71 VSS (power), 72 VDD (power), 73 P3.6/T3IN (io), 74 P3.7/T2IN (io), 75 P3.8/MRST (io), 76 P3.9/MTSR (io), 77 P3.10/TXD0 (io), 78 P3.11/RXD0 (io), 79 P3.12/~{BHE}/~{WRH} (io), 80 P3.13/SCLK (io), 81 P3.15/CLKOUT (io), 82 VDD (power), 83 VSS (power), 84 RPD (power), 85 P4.0/A16 (io), 86 P4.1/A17 (io), 87 P4.2/A18 (io), 88 P4.3/A19 (io), 89 P4.4/A20/CAN2_RxD (io), 90 P4.5/A21/CAN1_RxD (io), 91 P4.6/A22/CAN1_TxD (io), 92 P4.7/A23/CAN2_TxD (io), 93 VDD (power), 94 VSS (power), 95 ~{RD} (out), 96 ~{WR/WRL} (out), 97 ~{READY} (in), 98 ALE (out), 99 ~{EA} (in), 100 P0L.0/AD0 (io), 101 P0L.1/AD1 (io), 102 P0L.2/AD2 (io), 103 P0L.3/AD3 (io), 104 P0L.4/AD4 (io), 105 P0L.5/AD5 (io), 106 P0L.6/AD6 (io), 107 P0L.7/AD7 (io), 108 P0H.0/AD8 (io), 109 VDD (power), 110 VSS (power), 111 P0H.1/AD9 (io), 112 P0H.2/AD10 (io), 113 P0H.3/AD11 (io), 114 P0H.4/AD12 (io), 115 P0H.5/AD13 (io), 116 P0H.6/AD14 (io), 117 P0H.7/AD15 (io), 118 P1L.0/A0 (io), 119 P1L.1/A1 (io), 120 P1L.2/A2 (io), 121 P1L.3/A3 (io), 122 P1L.4/A4 (io), 123 P1L.5/A5 (io), 124 P1L.6/A6 (io), 125 P1L.7/A7 (io), 126 VDD (power), 127 VSS (power), 128 P1H.0/A8 (io), 129 P1H.1/A9 (io), 130 P1H.2/A10 (io), 131 P1H.3/A11 (io), 132 P1H.4/A12/CC24IO (io), 133 P1H.5/A13/CC25IO (io), 134 P1H.6/A14/CC26IO (io), 135 P1H.7/A15/CC27IO (io), 136 VDD (power), 137 XTAL2 (out), 138 XTAL1 (in), 139 VSS (power), 140 ~{RSTIN} (in), 141 ~{RSTOUT} (out), 142 ~{NMI} (in), 143 VSS (power), 144 VDD (power)

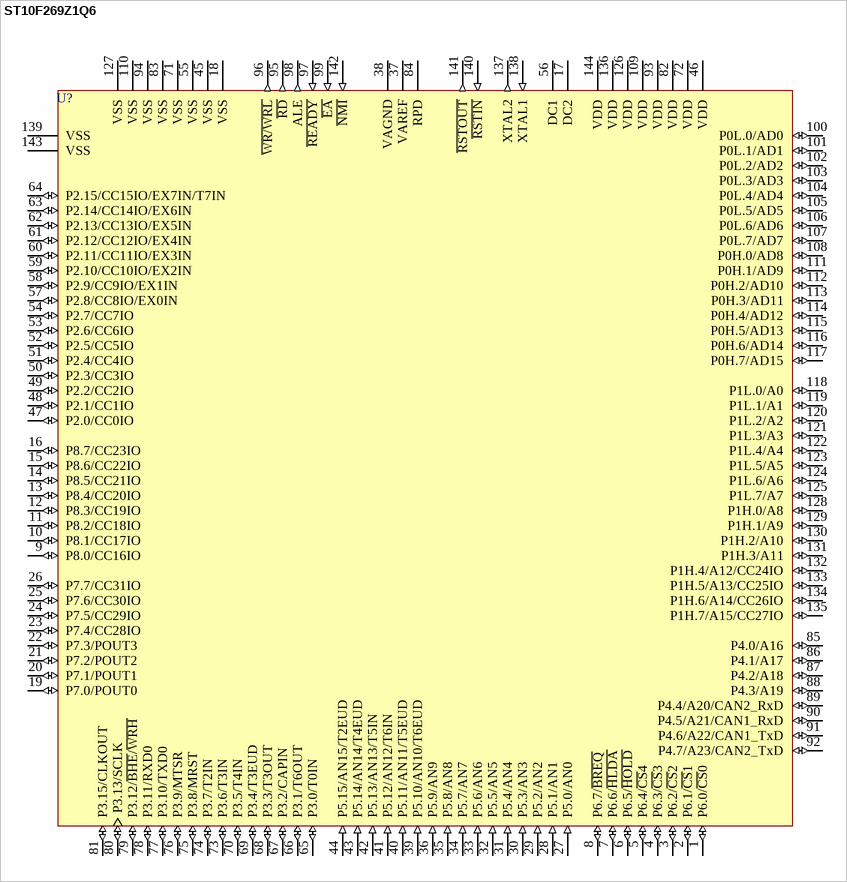
[diagram p7: symbol ST10F269Z1Q6]

## ST10F269Z1Q6
designator U?
16-Bit MCU with MAC Unit, 128k FLASH Memory and 12k RAM, 144-Pin PQFP; Published: 26-May-2004; DatasheetDocument: Sep-2003; PackageDocument: Jun-2002; PackageReference: PQFP144; Publisher: Altium Limited; Code_IPC: QFP28X28-144
footprint PQFP144 (QFP; 144 Leads; Body 28 x 28 mm; Pitch 0.65 mm)
pins: 1 P6.0/~{CS}0 (io), 2 P6.1/~{CS}1 (io), 3 P6.2/~{CS}2 (io), 4 P6.3/~{CS}3 (io), 5 P6.4/~{CS}4 (io), 6 P6.5/~{HOLD} (io), 7 P6.6/~{HLDA} (io), 8 P6.7/~{BREQ} (io), 9 P8.0/CC16IO (io), 10 P8.1/CC17IO (io), 11 P8.2/CC18IO (io), 12 P8.3/CC19IO (io), 13 P8.4/CC20IO (io), 14 P8.5/CC21IO (io), 15 P8.6/CC22IO (io), 16 P8.7/CC23IO (io), 17 DC2 (power), 18 VSS (power), 19 P7.0/POUT0 (io), 20 P7.1/POUT1 (io), 21 P7.2/POUT2 (io), 22 P7.3/POUT3 (io), 23 P7.4/CC28IO (io), 24 P7.5/CC29IO (io), 25 P7.6/CC30IO (io), 26 P7.7/CC31IO (io), 27 P5.0/AN0 (in), 28 P5.1/AN1 (in), 29 P5.2/AN2 (in), 30 P5.3/AN3 (in), 31 P5.4/AN4 (in), 32 P5.5/AN5 (in), 33 P5.6/AN6 (in), 34 P5.7/AN7 (in), 35 P5.8/AN8 (in), 36 P5.9/AN9 (in), 37 VAREF (power), 38 VAGND (power), 39 P5.10/AN10/T6EUD (in), 40 P5.11/AN11/T5EUD (in), 41 P5.12/AN12/T6IN (in), 42 P5.13/AN13/T5IN (in), 43 P5.14/AN14/T4EUD (in), 44 P5.15/AN15/T2EUD (in), 45 VSS (power), 46 VDD (power), 47 P2.0/CC0IO (io), 48 P2.1/CC1IO (io), 49 P2.2/CC2IO (io), 50 P2.3/CC3IO (io), 51 P2.4/CC4IO (io), 52 P2.5/CC5IO (io), 53 P2.6/CC6IO (io), 54 P2.7/CC7IO (io), 55 VSS (power), 56 DC1 (power), 57 P2.8/CC8IO/EX0IN (io), 58 P2.9/CC9IO/EX1IN (io), 59 P2.10/CC10IO/EX2IN (io), 60 P2.11/CC11IO/EX3IN (io), 61 P2.12/CC12IO/EX4IN (io), 62 P2.13/CC13IO/EX5IN (io), 63 P2.14/CC14IO/EX6IN (io), 64 P2.15/CC15IO/EX7IN/T7IN (io), 65 P3.0/T0IN (io), 66 P3.1/T6OUT (io), 67 P3.2/CAPIN (io), 68 P3.3/T3OUT (io), 69 P3.4/T3EUD (io), 70 P3.5/T4IN (io), 71 VSS (power), 72 VDD (power), 73 P3.6/T3IN (io), 74 P3.7/T2IN (io), 75 P3.8/MRST (io), 76 P3.9/MTSR (io), 77 P3.10/TXD0 (io), 78 P3.11/RXD0 (io), 79 P3.12/~{BHE}/~{WRH} (io), 80 P3.13/SCLK (io), 81 P3.15/CLKOUT (io), 82 VDD (power), 83 VSS (power), 84 RPD (power), 85 P4.0/A16 (io), 86 P4.1/A17 (io), 87 P4.2/A18 (io), 88 P4.3/A19 (io), 89 P4.4/A20/CAN2_RxD (io), 90 P4.5/A21/CAN1_RxD (io), 91 P4.6/A22/CAN1_TxD (io), 92 P4.7/A23/CAN2_TxD (io), 93 VDD (power), 94 VSS (power), 95 ~{RD} (out), 96 ~{WR/WRL} (out), 97 ~{READY} (in), 98 ALE (out), 99 ~{EA} (in), 100 P0L.0/AD0 (io), 101 P0L.1/AD1 (io), 102 P0L.2/AD2 (io), 103 P0L.3/AD3 (io), 104 P0L.4/AD4 (io), 105 P0L.5/AD5 (io), 106 P0L.6/AD6 (io), 107 P0L.7/AD7 (io), 108 P0H.0/AD8 (io), 109 VDD (power), 110 VSS (power), 111 P0H.1/AD9 (io), 112 P0H.2/AD10 (io), 113 P0H.3/AD11 (io), 114 P0H.4/AD12 (io), 115 P0H.5/AD13 (io), 116 P0H.6/AD14 (io), 117 P0H.7/AD15 (io), 118 P1L.0/A0 (io), 119 P1L.1/A1 (io), 120 P1L.2/A2 (io), 121 P1L.3/A3 (io), 122 P1L.4/A4 (io), 123 P1L.5/A5 (io), 124 P1L.6/A6 (io), 125 P1L.7/A7 (io), 126 VDD (power), 127 VSS (power), 128 P1H.0/A8 (io), 129 P1H.1/A9 (io), 130 P1H.2/A10 (io), 131 P1H.3/A11 (io), 132 P1H.4/A12/CC24IO (io), 133 P1H.5/A13/CC25IO (io), 134 P1H.6/A14/CC26IO (io), 135 P1H.7/A15/CC27IO (io), 136 VDD (power), 137 XTAL2 (out), 138 XTAL1 (in), 139 VSS (power), 140 ~{RSTIN} (in), 141 ~{RSTOUT} (out), 142 ~{NMI} (in), 143 VSS (power), 144 VDD (power)

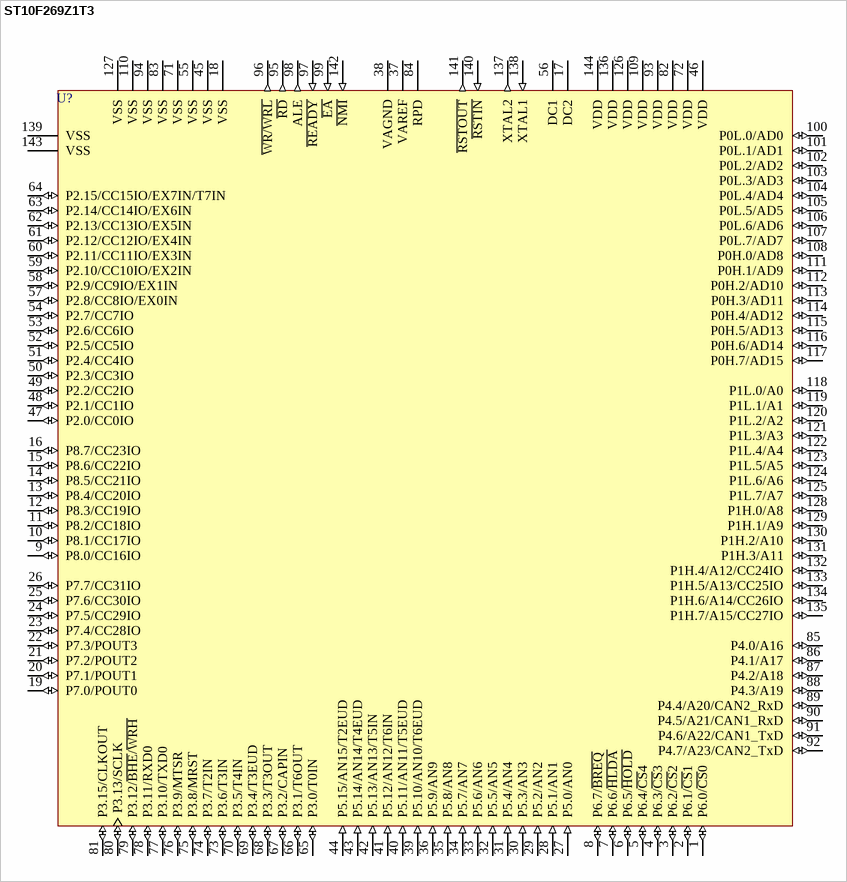
[diagram p8: symbol ST10F269Z1T3]

## ST10F269Z1T3
designator U?
16-Bit MCU with MAC Unit, 128k FLASH Memory and 12k RAM, 144-Pin TQFP; Published: 26-May-2004; DatasheetDocument: Sep-2003; PackageDocument: Mar-2003; PackageReference: TQFP144; Publisher: Altium Limited; Code_IPC: SQFP20X20-144
footprint TQFP144 (QFP; 144 Leads; Body 20 x 20 mm; Pitch 0.5 mm)
pins: 1 P6.0/~{CS}0 (io), 2 P6.1/~{CS}1 (io), 3 P6.2/~{CS}2 (io), 4 P6.3/~{CS}3 (io), 5 P6.4/~{CS}4 (io), 6 P6.5/~{HOLD} (io), 7 P6.6/~{HLDA} (io), 8 P6.7/~{BREQ} (io), 9 P8.0/CC16IO (io), 10 P8.1/CC17IO (io), 11 P8.2/CC18IO (io), 12 P8.3/CC19IO (io), 13 P8.4/CC20IO (io), 14 P8.5/CC21IO (io), 15 P8.6/CC22IO (io), 16 P8.7/CC23IO (io), 17 DC2 (power), 18 VSS (power), 19 P7.0/POUT0 (io), 20 P7.1/POUT1 (io), 21 P7.2/POUT2 (io), 22 P7.3/POUT3 (io), 23 P7.4/CC28IO (io), 24 P7.5/CC29IO (io), 25 P7.6/CC30IO (io), 26 P7.7/CC31IO (io), 27 P5.0/AN0 (in), 28 P5.1/AN1 (in), 29 P5.2/AN2 (in), 30 P5.3/AN3 (in), 31 P5.4/AN4 (in), 32 P5.5/AN5 (in), 33 P5.6/AN6 (in), 34 P5.7/AN7 (in), 35 P5.8/AN8 (in), 36 P5.9/AN9 (in), 37 VAREF (power), 38 VAGND (power), 39 P5.10/AN10/T6EUD (in), 40 P5.11/AN11/T5EUD (in), 41 P5.12/AN12/T6IN (in), 42 P5.13/AN13/T5IN (in), 43 P5.14/AN14/T4EUD (in), 44 P5.15/AN15/T2EUD (in), 45 VSS (power), 46 VDD (power), 47 P2.0/CC0IO (io), 48 P2.1/CC1IO (io), 49 P2.2/CC2IO (io), 50 P2.3/CC3IO (io), 51 P2.4/CC4IO (io), 52 P2.5/CC5IO (io), 53 P2.6/CC6IO (io), 54 P2.7/CC7IO (io), 55 VSS (power), 56 DC1 (power), 57 P2.8/CC8IO/EX0IN (io), 58 P2.9/CC9IO/EX1IN (io), 59 P2.10/CC10IO/EX2IN (io), 60 P2.11/CC11IO/EX3IN (io), 61 P2.12/CC12IO/EX4IN (io), 62 P2.13/CC13IO/EX5IN (io), 63 P2.14/CC14IO/EX6IN (io), 64 P2.15/CC15IO/EX7IN/T7IN (io), 65 P3.0/T0IN (io), 66 P3.1/T6OUT (io), 67 P3.2/CAPIN (io), 68 P3.3/T3OUT (io), 69 P3.4/T3EUD (io), 70 P3.5/T4IN (io), 71 VSS (power), 72 VDD (power), 73 P3.6/T3IN (io), 74 P3.7/T2IN (io), 75 P3.8/MRST (io), 76 P3.9/MTSR (io), 77 P3.10/TXD0 (io), 78 P3.11/RXD0 (io), 79 P3.12/~{BHE}/~{WRH} (io), 80 P3.13/SCLK (io), 81 P3.15/CLKOUT (io), 82 VDD (power), 83 VSS (power), 84 RPD (power), 85 P4.0/A16 (io), 86 P4.1/A17 (io), 87 P4.2/A18 (io), 88 P4.3/A19 (io), 89 P4.4/A20/CAN2_RxD (io), 90 P4.5/A21/CAN1_RxD (io), 91 P4.6/A22/CAN1_TxD (io), 92 P4.7/A23/CAN2_TxD (io), 93 VDD (power), 94 VSS (power), 95 ~{RD} (out), 96 ~{WR/WRL} (out), 97 ~{READY} (in), 98 ALE (out), 99 ~{EA} (in), 100 P0L.0/AD0 (io), 101 P0L.1/AD1 (io), 102 P0L.2/AD2 (io), 103 P0L.3/AD3 (io), 104 P0L.4/AD4 (io), 105 P0L.5/AD5 (io), 106 P0L.6/AD6 (io), 107 P0L.7/AD7 (io), 108 P0H.0/AD8 (io), 109 VDD (power), 110 VSS (power), 111 P0H.1/AD9 (io), 112 P0H.2/AD10 (io), 113 P0H.3/AD11 (io), 114 P0H.4/AD12 (io), 115 P0H.5/AD13 (io), 116 P0H.6/AD14 (io), 117 P0H.7/AD15 (io), 118 P1L.0/A0 (io), 119 P1L.1/A1 (io), 120 P1L.2/A2 (io), 121 P1L.3/A3 (io), 122 P1L.4/A4 (io), 123 P1L.5/A5 (io), 124 P1L.6/A6 (io), 125 P1L.7/A7 (io), 126 VDD (power), 127 VSS (power), 128 P1H.0/A8 (io), 129 P1H.1/A9 (io), 130 P1H.2/A10 (io), 131 P1H.3/A11 (io), 132 P1H.4/A12/CC24IO (io), 133 P1H.5/A13/CC25IO (io), 134 P1H.6/A14/CC26IO (io), 135 P1H.7/A15/CC27IO (io), 136 VDD (power), 137 XTAL2 (out), 138 XTAL1 (in), 139 VSS (power), 140 ~{RSTIN} (in), 141 ~{RSTOUT} (out), 142 ~{NMI} (in), 143 VSS (power), 144 VDD (power)

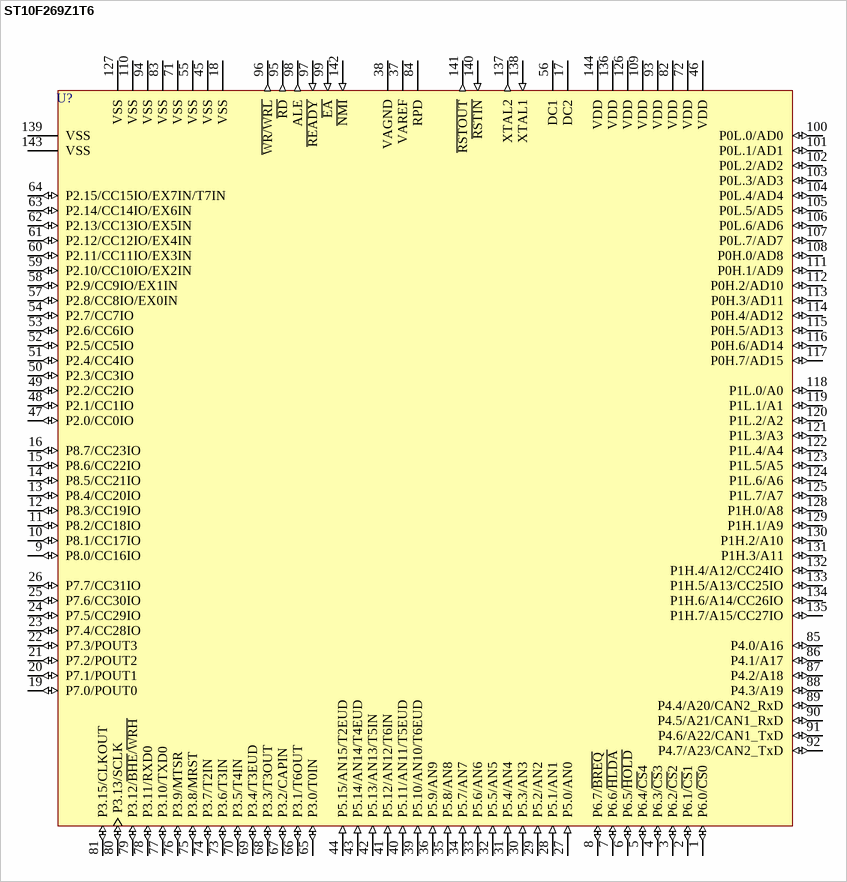
[diagram p9: symbol ST10F269Z1T6]

## ST10F269Z1T6
designator U?
16-Bit MCU with MAC Unit, 128k FLASH Memory and 12k RAM, 144-Pin TQFP; Published: 26-May-2004; DatasheetDocument: Sep-2003; PackageDocument: Mar-2003; PackageReference: TQFP144; Publisher: Altium Limited; Code_IPC: SQFP20X20-144
footprint TQFP144 (QFP; 144 Leads; Body 20 x 20 mm; Pitch 0.5 mm)
pins: 1 P6.0/~{CS}0 (io), 2 P6.1/~{CS}1 (io), 3 P6.2/~{CS}2 (io), 4 P6.3/~{CS}3 (io), 5 P6.4/~{CS}4 (io), 6 P6.5/~{HOLD} (io), 7 P6.6/~{HLDA} (io), 8 P6.7/~{BREQ} (io), 9 P8.0/CC16IO (io), 10 P8.1/CC17IO (io), 11 P8.2/CC18IO (io), 12 P8.3/CC19IO (io), 13 P8.4/CC20IO (io), 14 P8.5/CC21IO (io), 15 P8.6/CC22IO (io), 16 P8.7/CC23IO (io), 17 DC2 (power), 18 VSS (power), 19 P7.0/POUT0 (io), 20 P7.1/POUT1 (io), 21 P7.2/POUT2 (io), 22 P7.3/POUT3 (io), 23 P7.4/CC28IO (io), 24 P7.5/CC29IO (io), 25 P7.6/CC30IO (io), 26 P7.7/CC31IO (io), 27 P5.0/AN0 (in), 28 P5.1/AN1 (in), 29 P5.2/AN2 (in), 30 P5.3/AN3 (in), 31 P5.4/AN4 (in), 32 P5.5/AN5 (in), 33 P5.6/AN6 (in), 34 P5.7/AN7 (in), 35 P5.8/AN8 (in), 36 P5.9/AN9 (in), 37 VAREF (power), 38 VAGND (power), 39 P5.10/AN10/T6EUD (in), 40 P5.11/AN11/T5EUD (in), 41 P5.12/AN12/T6IN (in), 42 P5.13/AN13/T5IN (in), 43 P5.14/AN14/T4EUD (in), 44 P5.15/AN15/T2EUD (in), 45 VSS (power), 46 VDD (power), 47 P2.0/CC0IO (io), 48 P2.1/CC1IO (io), 49 P2.2/CC2IO (io), 50 P2.3/CC3IO (io), 51 P2.4/CC4IO (io), 52 P2.5/CC5IO (io), 53 P2.6/CC6IO (io), 54 P2.7/CC7IO (io), 55 VSS (power), 56 DC1 (power), 57 P2.8/CC8IO/EX0IN (io), 58 P2.9/CC9IO/EX1IN (io), 59 P2.10/CC10IO/EX2IN (io), 60 P2.11/CC11IO/EX3IN (io), 61 P2.12/CC12IO/EX4IN (io), 62 P2.13/CC13IO/EX5IN (io), 63 P2.14/CC14IO/EX6IN (io), 64 P2.15/CC15IO/EX7IN/T7IN (io), 65 P3.0/T0IN (io), 66 P3.1/T6OUT (io), 67 P3.2/CAPIN (io), 68 P3.3/T3OUT (io), 69 P3.4/T3EUD (io), 70 P3.5/T4IN (io), 71 VSS (power), 72 VDD (power), 73 P3.6/T3IN (io), 74 P3.7/T2IN (io), 75 P3.8/MRST (io), 76 P3.9/MTSR (io), 77 P3.10/TXD0 (io), 78 P3.11/RXD0 (io), 79 P3.12/~{BHE}/~{WRH} (io), 80 P3.13/SCLK (io), 81 P3.15/CLKOUT (io), 82 VDD (power), 83 VSS (power), 84 RPD (power), 85 P4.0/A16 (io), 86 P4.1/A17 (io), 87 P4.2/A18 (io), 88 P4.3/A19 (io), 89 P4.4/A20/CAN2_RxD (io), 90 P4.5/A21/CAN1_RxD (io), 91 P4.6/A22/CAN1_TxD (io), 92 P4.7/A23/CAN2_TxD (io), 93 VDD (power), 94 VSS (power), 95 ~{RD} (out), 96 ~{WR/WRL} (out), 97 ~{READY} (in), 98 ALE (out), 99 ~{EA} (in), 100 P0L.0/AD0 (io), 101 P0L.1/AD1 (io), 102 P0L.2/AD2 (io), 103 P0L.3/AD3 (io), 104 P0L.4/AD4 (io), 105 P0L.5/AD5 (io), 106 P0L.6/AD6 (io), 107 P0L.7/AD7 (io), 108 P0H.0/AD8 (io), 109 VDD (power), 110 VSS (power), 111 P0H.1/AD9 (io), 112 P0H.2/AD10 (io), 113 P0H.3/AD11 (io), 114 P0H.4/AD12 (io), 115 P0H.5/AD13 (io), 116 P0H.6/AD14 (io), 117 P0H.7/AD15 (io), 118 P1L.0/A0 (io), 119 P1L.1/A1 (io), 120 P1L.2/A2 (io), 121 P1L.3/A3 (io), 122 P1L.4/A4 (io), 123 P1L.5/A5 (io), 124 P1L.6/A6 (io), 125 P1L.7/A7 (io), 126 VDD (power), 127 VSS (power), 128 P1H.0/A8 (io), 129 P1H.1/A9 (io), 130 P1H.2/A10 (io), 131 P1H.3/A11 (io), 132 P1H.4/A12/CC24IO (io), 133 P1H.5/A13/CC25IO (io), 134 P1H.6/A14/CC26IO (io), 135 P1H.7/A15/CC27IO (io), 136 VDD (power), 137 XTAL2 (out), 138 XTAL1 (in), 139 VSS (power), 140 ~{RSTIN} (in), 141 ~{RSTOUT} (out), 142 ~{NMI} (in), 143 VSS (power), 144 VDD (power)

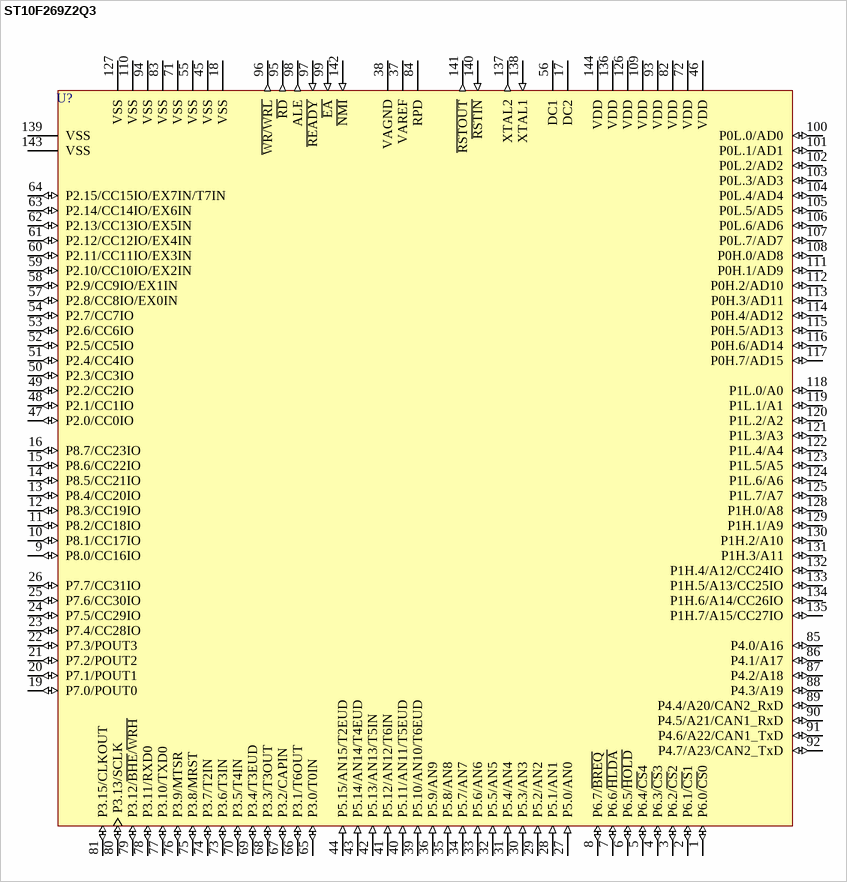
[diagram p10: symbol ST10F269Z2Q3]

## ST10F269Z2Q3
designator U?
16-Bit MCU with MAC Unit, 256k FLASH Memory and 12k RAM, 144-Pin PQFP; Published: 26-May-2004; DatasheetDocument: Sep-2003; PackageDocument: Jun-2002; PackageReference: PQFP144; Publisher: Altium Limited; Code_IPC: QFP28X28-144
footprint PQFP144 (QFP; 144 Leads; Body 28 x 28 mm; Pitch 0.65 mm)
pins: 1 P6.0/~{CS}0 (io), 2 P6.1/~{CS}1 (io), 3 P6.2/~{CS}2 (io), 4 P6.3/~{CS}3 (io), 5 P6.4/~{CS}4 (io), 6 P6.5/~{HOLD} (io), 7 P6.6/~{HLDA} (io), 8 P6.7/~{BREQ} (io), 9 P8.0/CC16IO (io), 10 P8.1/CC17IO (io), 11 P8.2/CC18IO (io), 12 P8.3/CC19IO (io), 13 P8.4/CC20IO (io), 14 P8.5/CC21IO (io), 15 P8.6/CC22IO (io), 16 P8.7/CC23IO (io), 17 DC2 (power), 18 VSS (power), 19 P7.0/POUT0 (io), 20 P7.1/POUT1 (io), 21 P7.2/POUT2 (io), 22 P7.3/POUT3 (io), 23 P7.4/CC28IO (io), 24 P7.5/CC29IO (io), 25 P7.6/CC30IO (io), 26 P7.7/CC31IO (io), 27 P5.0/AN0 (in), 28 P5.1/AN1 (in), 29 P5.2/AN2 (in), 30 P5.3/AN3 (in), 31 P5.4/AN4 (in), 32 P5.5/AN5 (in), 33 P5.6/AN6 (in), 34 P5.7/AN7 (in), 35 P5.8/AN8 (in), 36 P5.9/AN9 (in), 37 VAREF (power), 38 VAGND (power), 39 P5.10/AN10/T6EUD (in), 40 P5.11/AN11/T5EUD (in), 41 P5.12/AN12/T6IN (in), 42 P5.13/AN13/T5IN (in), 43 P5.14/AN14/T4EUD (in), 44 P5.15/AN15/T2EUD (in), 45 VSS (power), 46 VDD (power), 47 P2.0/CC0IO (io), 48 P2.1/CC1IO (io), 49 P2.2/CC2IO (io), 50 P2.3/CC3IO (io), 51 P2.4/CC4IO (io), 52 P2.5/CC5IO (io), 53 P2.6/CC6IO (io), 54 P2.7/CC7IO (io), 55 VSS (power), 56 DC1 (power), 57 P2.8/CC8IO/EX0IN (io), 58 P2.9/CC9IO/EX1IN (io), 59 P2.10/CC10IO/EX2IN (io), 60 P2.11/CC11IO/EX3IN (io), 61 P2.12/CC12IO/EX4IN (io), 62 P2.13/CC13IO/EX5IN (io), 63 P2.14/CC14IO/EX6IN (io), 64 P2.15/CC15IO/EX7IN/T7IN (io), 65 P3.0/T0IN (io), 66 P3.1/T6OUT (io), 67 P3.2/CAPIN (io), 68 P3.3/T3OUT (io), 69 P3.4/T3EUD (io), 70 P3.5/T4IN (io), 71 VSS (power), 72 VDD (power), 73 P3.6/T3IN (io), 74 P3.7/T2IN (io), 75 P3.8/MRST (io), 76 P3.9/MTSR (io), 77 P3.10/TXD0 (io), 78 P3.11/RXD0 (io), 79 P3.12/~{BHE}/~{WRH} (io), 80 P3.13/SCLK (io), 81 P3.15/CLKOUT (io), 82 VDD (power), 83 VSS (power), 84 RPD (power), 85 P4.0/A16 (io), 86 P4.1/A17 (io), 87 P4.2/A18 (io), 88 P4.3/A19 (io), 89 P4.4/A20/CAN2_RxD (io), 90 P4.5/A21/CAN1_RxD (io), 91 P4.6/A22/CAN1_TxD (io), 92 P4.7/A23/CAN2_TxD (io), 93 VDD (power), 94 VSS (power), 95 ~{RD} (out), 96 ~{WR/WRL} (out), 97 ~{READY} (in), 98 ALE (out), 99 ~{EA} (in), 100 P0L.0/AD0 (io), 101 P0L.1/AD1 (io), 102 P0L.2/AD2 (io), 103 P0L.3/AD3 (io), 104 P0L.4/AD4 (io), 105 P0L.5/AD5 (io), 106 P0L.6/AD6 (io), 107 P0L.7/AD7 (io), 108 P0H.0/AD8 (io), 109 VDD (power), 110 VSS (power), 111 P0H.1/AD9 (io), 112 P0H.2/AD10 (io), 113 P0H.3/AD11 (io), 114 P0H.4/AD12 (io), 115 P0H.5/AD13 (io), 116 P0H.6/AD14 (io), 117 P0H.7/AD15 (io), 118 P1L.0/A0 (io), 119 P1L.1/A1 (io), 120 P1L.2/A2 (io), 121 P1L.3/A3 (io), 122 P1L.4/A4 (io), 123 P1L.5/A5 (io), 124 P1L.6/A6 (io), 125 P1L.7/A7 (io), 126 VDD (power), 127 VSS (power), 128 P1H.0/A8 (io), 129 P1H.1/A9 (io), 130 P1H.2/A10 (io), 131 P1H.3/A11 (io), 132 P1H.4/A12/CC24IO (io), 133 P1H.5/A13/CC25IO (io), 134 P1H.6/A14/CC26IO (io), 135 P1H.7/A15/CC27IO (io), 136 VDD (power), 137 XTAL2 (out), 138 XTAL1 (in), 139 VSS (power), 140 ~{RSTIN} (in), 141 ~{RSTOUT} (out), 142 ~{NMI} (in), 143 VSS (power), 144 VDD (power)

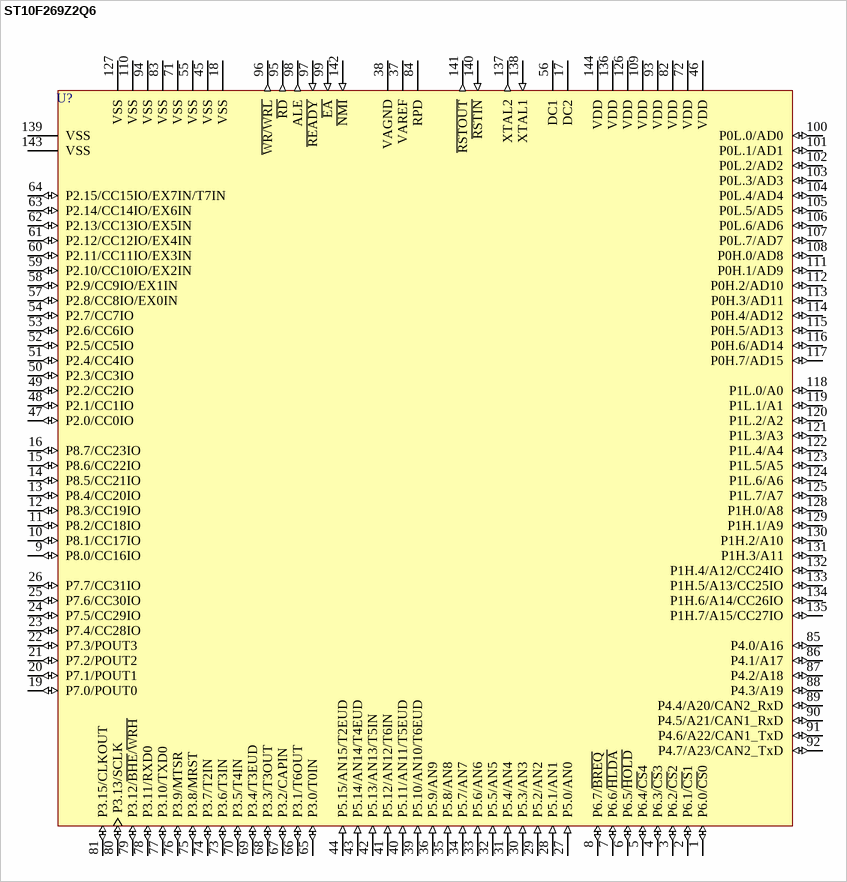
[diagram p11: symbol ST10F269Z2Q6]

## ST10F269Z2Q6
designator U?
16-Bit MCU with MAC Unit, 256k FLASH Memory and 12k RAM, 144-Pin PQFP; Published: 26-May-2004; DatasheetDocument: Sep-2003; PackageDocument: Jun-2002; PackageReference: PQFP144; Publisher: Altium Limited; Code_IPC: QFP28X28-144
footprint PQFP144 (QFP; 144 Leads; Body 28 x 28 mm; Pitch 0.65 mm)
pins: 1 P6.0/~{CS}0 (io), 2 P6.1/~{CS}1 (io), 3 P6.2/~{CS}2 (io), 4 P6.3/~{CS}3 (io), 5 P6.4/~{CS}4 (io), 6 P6.5/~{HOLD} (io), 7 P6.6/~{HLDA} (io), 8 P6.7/~{BREQ} (io), 9 P8.0/CC16IO (io), 10 P8.1/CC17IO (io), 11 P8.2/CC18IO (io), 12 P8.3/CC19IO (io), 13 P8.4/CC20IO (io), 14 P8.5/CC21IO (io), 15 P8.6/CC22IO (io), 16 P8.7/CC23IO (io), 17 DC2 (power), 18 VSS (power), 19 P7.0/POUT0 (io), 20 P7.1/POUT1 (io), 21 P7.2/POUT2 (io), 22 P7.3/POUT3 (io), 23 P7.4/CC28IO (io), 24 P7.5/CC29IO (io), 25 P7.6/CC30IO (io), 26 P7.7/CC31IO (io), 27 P5.0/AN0 (in), 28 P5.1/AN1 (in), 29 P5.2/AN2 (in), 30 P5.3/AN3 (in), 31 P5.4/AN4 (in), 32 P5.5/AN5 (in), 33 P5.6/AN6 (in), 34 P5.7/AN7 (in), 35 P5.8/AN8 (in), 36 P5.9/AN9 (in), 37 VAREF (power), 38 VAGND (power), 39 P5.10/AN10/T6EUD (in), 40 P5.11/AN11/T5EUD (in), 41 P5.12/AN12/T6IN (in), 42 P5.13/AN13/T5IN (in), 43 P5.14/AN14/T4EUD (in), 44 P5.15/AN15/T2EUD (in), 45 VSS (power), 46 VDD (power), 47 P2.0/CC0IO (io), 48 P2.1/CC1IO (io), 49 P2.2/CC2IO (io), 50 P2.3/CC3IO (io), 51 P2.4/CC4IO (io), 52 P2.5/CC5IO (io), 53 P2.6/CC6IO (io), 54 P2.7/CC7IO (io), 55 VSS (power), 56 DC1 (power), 57 P2.8/CC8IO/EX0IN (io), 58 P2.9/CC9IO/EX1IN (io), 59 P2.10/CC10IO/EX2IN (io), 60 P2.11/CC11IO/EX3IN (io), 61 P2.12/CC12IO/EX4IN (io), 62 P2.13/CC13IO/EX5IN (io), 63 P2.14/CC14IO/EX6IN (io), 64 P2.15/CC15IO/EX7IN/T7IN (io), 65 P3.0/T0IN (io), 66 P3.1/T6OUT (io), 67 P3.2/CAPIN (io), 68 P3.3/T3OUT (io), 69 P3.4/T3EUD (io), 70 P3.5/T4IN (io), 71 VSS (power), 72 VDD (power), 73 P3.6/T3IN (io), 74 P3.7/T2IN (io), 75 P3.8/MRST (io), 76 P3.9/MTSR (io), 77 P3.10/TXD0 (io), 78 P3.11/RXD0 (io), 79 P3.12/~{BHE}/~{WRH} (io), 80 P3.13/SCLK (io), 81 P3.15/CLKOUT (io), 82 VDD (power), 83 VSS (power), 84 RPD (power), 85 P4.0/A16 (io), 86 P4.1/A17 (io), 87 P4.2/A18 (io), 88 P4.3/A19 (io), 89 P4.4/A20/CAN2_RxD (io), 90 P4.5/A21/CAN1_RxD (io), 91 P4.6/A22/CAN1_TxD (io), 92 P4.7/A23/CAN2_TxD (io), 93 VDD (power), 94 VSS (power), 95 ~{RD} (out), 96 ~{WR/WRL} (out), 97 ~{READY} (in), 98 ALE (out), 99 ~{EA} (in), 100 P0L.0/AD0 (io), 101 P0L.1/AD1 (io), 102 P0L.2/AD2 (io), 103 P0L.3/AD3 (io), 104 P0L.4/AD4 (io), 105 P0L.5/AD5 (io), 106 P0L.6/AD6 (io), 107 P0L.7/AD7 (io), 108 P0H.0/AD8 (io), 109 VDD (power), 110 VSS (power), 111 P0H.1/AD9 (io), 112 P0H.2/AD10 (io), 113 P0H.3/AD11 (io), 114 P0H.4/AD12 (io), 115 P0H.5/AD13 (io), 116 P0H.6/AD14 (io), 117 P0H.7/AD15 (io), 118 P1L.0/A0 (io), 119 P1L.1/A1 (io), 120 P1L.2/A2 (io), 121 P1L.3/A3 (io), 122 P1L.4/A4 (io), 123 P1L.5/A5 (io), 124 P1L.6/A6 (io), 125 P1L.7/A7 (io), 126 VDD (power), 127 VSS (power), 128 P1H.0/A8 (io), 129 P1H.1/A9 (io), 130 P1H.2/A10 (io), 131 P1H.3/A11 (io), 132 P1H.4/A12/CC24IO (io), 133 P1H.5/A13/CC25IO (io), 134 P1H.6/A14/CC26IO (io), 135 P1H.7/A15/CC27IO (io), 136 VDD (power), 137 XTAL2 (out), 138 XTAL1 (in), 139 VSS (power), 140 ~{RSTIN} (in), 141 ~{RSTOUT} (out), 142 ~{NMI} (in), 143 VSS (power), 144 VDD (power)

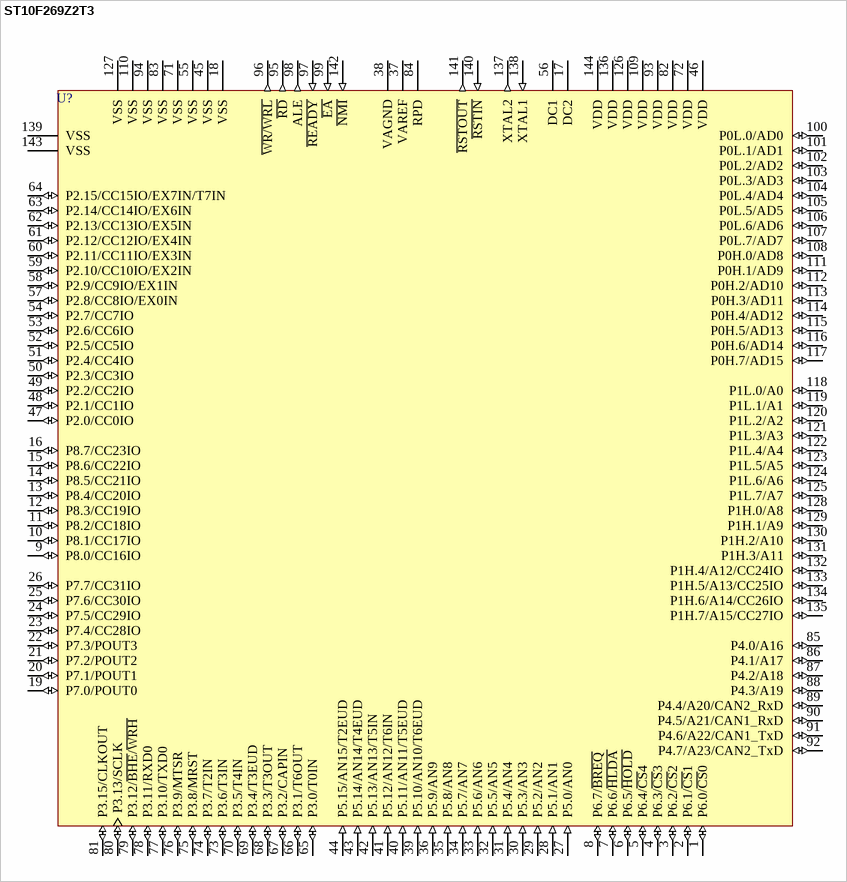
[diagram p12: symbol ST10F269Z2T3]

## ST10F269Z2T3
designator U?
16-Bit MCU with MAC Unit, 256k FLASH Memory and 12k RAM, 144-Pin TQFP; Published: 26-May-2004; DatasheetDocument: Sep-2003; PackageDocument: Mar-2003; PackageReference: TQFP144; Publisher: Altium Limited; Code_IPC: SQFP20X20-144
footprint TQFP144 (QFP; 144 Leads; Body 20 x 20 mm; Pitch 0.5 mm)
pins: 1 P6.0/~{CS}0 (io), 2 P6.1/~{CS}1 (io), 3 P6.2/~{CS}2 (io), 4 P6.3/~{CS}3 (io), 5 P6.4/~{CS}4 (io), 6 P6.5/~{HOLD} (io), 7 P6.6/~{HLDA} (io), 8 P6.7/~{BREQ} (io), 9 P8.0/CC16IO (io), 10 P8.1/CC17IO (io), 11 P8.2/CC18IO (io), 12 P8.3/CC19IO (io), 13 P8.4/CC20IO (io), 14 P8.5/CC21IO (io), 15 P8.6/CC22IO (io), 16 P8.7/CC23IO (io), 17 DC2 (power), 18 VSS (power), 19 P7.0/POUT0 (io), 20 P7.1/POUT1 (io), 21 P7.2/POUT2 (io), 22 P7.3/POUT3 (io), 23 P7.4/CC28IO (io), 24 P7.5/CC29IO (io), 25 P7.6/CC30IO (io), 26 P7.7/CC31IO (io), 27 P5.0/AN0 (in), 28 P5.1/AN1 (in), 29 P5.2/AN2 (in), 30 P5.3/AN3 (in), 31 P5.4/AN4 (in), 32 P5.5/AN5 (in), 33 P5.6/AN6 (in), 34 P5.7/AN7 (in), 35 P5.8/AN8 (in), 36 P5.9/AN9 (in), 37 VAREF (power), 38 VAGND (power), 39 P5.10/AN10/T6EUD (in), 40 P5.11/AN11/T5EUD (in), 41 P5.12/AN12/T6IN (in), 42 P5.13/AN13/T5IN (in), 43 P5.14/AN14/T4EUD (in), 44 P5.15/AN15/T2EUD (in), 45 VSS (power), 46 VDD (power), 47 P2.0/CC0IO (io), 48 P2.1/CC1IO (io), 49 P2.2/CC2IO (io), 50 P2.3/CC3IO (io), 51 P2.4/CC4IO (io), 52 P2.5/CC5IO (io), 53 P2.6/CC6IO (io), 54 P2.7/CC7IO (io), 55 VSS (power), 56 DC1 (power), 57 P2.8/CC8IO/EX0IN (io), 58 P2.9/CC9IO/EX1IN (io), 59 P2.10/CC10IO/EX2IN (io), 60 P2.11/CC11IO/EX3IN (io), 61 P2.12/CC12IO/EX4IN (io), 62 P2.13/CC13IO/EX5IN (io), 63 P2.14/CC14IO/EX6IN (io), 64 P2.15/CC15IO/EX7IN/T7IN (io), 65 P3.0/T0IN (io), 66 P3.1/T6OUT (io), 67 P3.2/CAPIN (io), 68 P3.3/T3OUT (io), 69 P3.4/T3EUD (io), 70 P3.5/T4IN (io), 71 VSS (power), 72 VDD (power), 73 P3.6/T3IN (io), 74 P3.7/T2IN (io), 75 P3.8/MRST (io), 76 P3.9/MTSR (io), 77 P3.10/TXD0 (io), 78 P3.11/RXD0 (io), 79 P3.12/~{BHE}/~{WRH} (io), 80 P3.13/SCLK (io), 81 P3.15/CLKOUT (io), 82 VDD (power), 83 VSS (power), 84 RPD (power), 85 P4.0/A16 (io), 86 P4.1/A17 (io), 87 P4.2/A18 (io), 88 P4.3/A19 (io), 89 P4.4/A20/CAN2_RxD (io), 90 P4.5/A21/CAN1_RxD (io), 91 P4.6/A22/CAN1_TxD (io), 92 P4.7/A23/CAN2_TxD (io), 93 VDD (power), 94 VSS (power), 95 ~{RD} (out), 96 ~{WR/WRL} (out), 97 ~{READY} (in), 98 ALE (out), 99 ~{EA} (in), 100 P0L.0/AD0 (io), 101 P0L.1/AD1 (io), 102 P0L.2/AD2 (io), 103 P0L.3/AD3 (io), 104 P0L.4/AD4 (io), 105 P0L.5/AD5 (io), 106 P0L.6/AD6 (io), 107 P0L.7/AD7 (io), 108 P0H.0/AD8 (io), 109 VDD (power), 110 VSS (power), 111 P0H.1/AD9 (io), 112 P0H.2/AD10 (io), 113 P0H.3/AD11 (io), 114 P0H.4/AD12 (io), 115 P0H.5/AD13 (io), 116 P0H.6/AD14 (io), 117 P0H.7/AD15 (io), 118 P1L.0/A0 (io), 119 P1L.1/A1 (io), 120 P1L.2/A2 (io), 121 P1L.3/A3 (io), 122 P1L.4/A4 (io), 123 P1L.5/A5 (io), 124 P1L.6/A6 (io), 125 P1L.7/A7 (io), 126 VDD (power), 127 VSS (power), 128 P1H.0/A8 (io), 129 P1H.1/A9 (io), 130 P1H.2/A10 (io), 131 P1H.3/A11 (io), 132 P1H.4/A12/CC24IO (io), 133 P1H.5/A13/CC25IO (io), 134 P1H.6/A14/CC26IO (io), 135 P1H.7/A15/CC27IO (io), 136 VDD (power), 137 XTAL2 (out), 138 XTAL1 (in), 139 VSS (power), 140 ~{RSTIN} (in), 141 ~{RSTOUT} (out), 142 ~{NMI} (in), 143 VSS (power), 144 VDD (power)

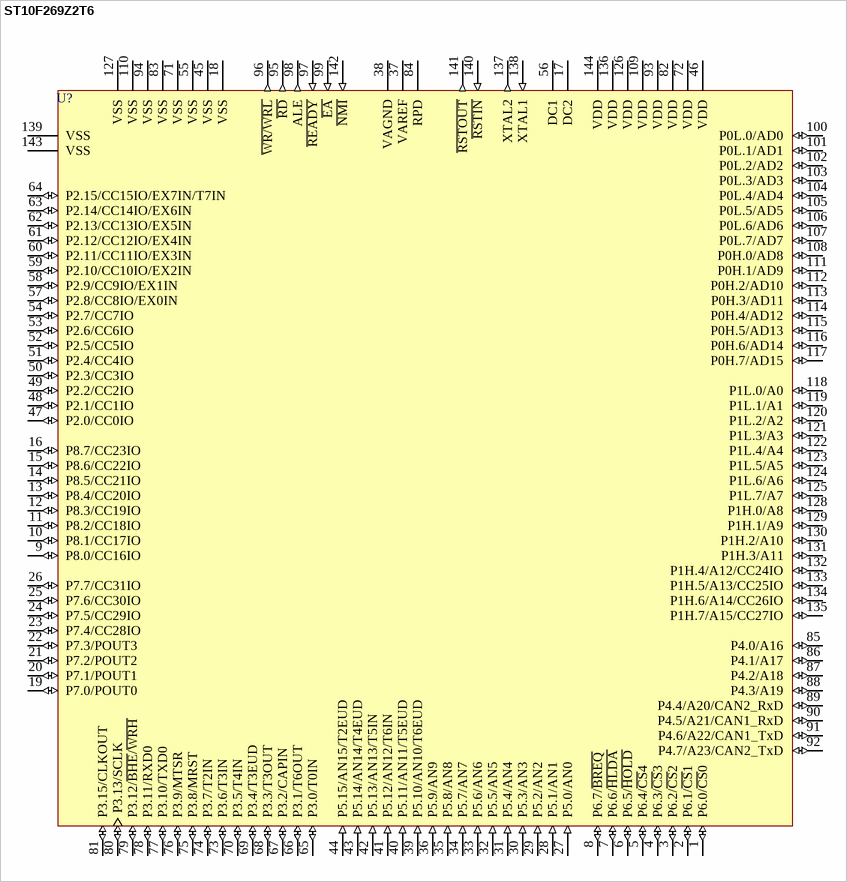
[diagram p13: symbol ST10F269Z2T6]

## ST10F269Z2T6
designator U?
16-Bit MCU with MAC Unit, 256k FLASH Memory and 12k RAM, 144-Pin TQFP; Published: 26-May-2004; DatasheetDocument: Sep-2003; PackageDocument: Mar-2003; PackageReference: TQFP144; Publisher: Altium Limited; Code_IPC: SQFP20X20-144
footprint TQFP144 (QFP; 144 Leads; Body 20 x 20 mm; Pitch 0.5 mm)
pins: 1 P6.0/~{CS}0 (io), 2 P6.1/~{CS}1 (io), 3 P6.2/~{CS}2 (io), 4 P6.3/~{CS}3 (io), 5 P6.4/~{CS}4 (io), 6 P6.5/~{HOLD} (io), 7 P6.6/~{HLDA} (io), 8 P6.7/~{BREQ} (io), 9 P8.0/CC16IO (io), 10 P8.1/CC17IO (io), 11 P8.2/CC18IO (io), 12 P8.3/CC19IO (io), 13 P8.4/CC20IO (io), 14 P8.5/CC21IO (io), 15 P8.6/CC22IO (io), 16 P8.7/CC23IO (io), 17 DC2 (power), 18 VSS (power), 19 P7.0/POUT0 (io), 20 P7.1/POUT1 (io), 21 P7.2/POUT2 (io), 22 P7.3/POUT3 (io), 23 P7.4/CC28IO (io), 24 P7.5/CC29IO (io), 25 P7.6/CC30IO (io), 26 P7.7/CC31IO (io), 27 P5.0/AN0 (in), 28 P5.1/AN1 (in), 29 P5.2/AN2 (in), 30 P5.3/AN3 (in), 31 P5.4/AN4 (in), 32 P5.5/AN5 (in), 33 P5.6/AN6 (in), 34 P5.7/AN7 (in), 35 P5.8/AN8 (in), 36 P5.9/AN9 (in), 37 VAREF (power), 38 VAGND (power), 39 P5.10/AN10/T6EUD (in), 40 P5.11/AN11/T5EUD (in), 41 P5.12/AN12/T6IN (in), 42 P5.13/AN13/T5IN (in), 43 P5.14/AN14/T4EUD (in), 44 P5.15/AN15/T2EUD (in), 45 VSS (power), 46 VDD (power), 47 P2.0/CC0IO (io), 48 P2.1/CC1IO (io), 49 P2.2/CC2IO (io), 50 P2.3/CC3IO (io), 51 P2.4/CC4IO (io), 52 P2.5/CC5IO (io), 53 P2.6/CC6IO (io), 54 P2.7/CC7IO (io), 55 VSS (power), 56 DC1 (power), 57 P2.8/CC8IO/EX0IN (io), 58 P2.9/CC9IO/EX1IN (io), 59 P2.10/CC10IO/EX2IN (io), 60 P2.11/CC11IO/EX3IN (io), 61 P2.12/CC12IO/EX4IN (io), 62 P2.13/CC13IO/EX5IN (io), 63 P2.14/CC14IO/EX6IN (io), 64 P2.15/CC15IO/EX7IN/T7IN (io), 65 P3.0/T0IN (io), 66 P3.1/T6OUT (io), 67 P3.2/CAPIN (io), 68 P3.3/T3OUT (io), 69 P3.4/T3EUD (io), 70 P3.5/T4IN (io), 71 VSS (power), 72 VDD (power), 73 P3.6/T3IN (io), 74 P3.7/T2IN (io), 75 P3.8/MRST (io), 76 P3.9/MTSR (io), 77 P3.10/TXD0 (io), 78 P3.11/RXD0 (io), 79 P3.12/~{BHE}/~{WRH} (io), 80 P3.13/SCLK (io), 81 P3.15/CLKOUT (io), 82 VDD (power), 83 VSS (power), 84 RPD (power), 85 P4.0/A16 (io), 86 P4.1/A17 (io), 87 P4.2/A18 (io), 88 P4.3/A19 (io), 89 P4.4/A20/CAN2_RxD (io), 90 P4.5/A21/CAN1_RxD (io), 91 P4.6/A22/CAN1_TxD (io), 92 P4.7/A23/CAN2_TxD (io), 93 VDD (power), 94 VSS (power), 95 ~{RD} (out), 96 ~{WR/WRL} (out), 97 ~{READY} (in), 98 ALE (out), 99 ~{EA} (in), 100 P0L.0/AD0 (io), 101 P0L.1/AD1 (io), 102 P0L.2/AD2 (io), 103 P0L.3/AD3 (io), 104 P0L.4/AD4 (io), 105 P0L.5/AD5 (io), 106 P0L.6/AD6 (io), 107 P0L.7/AD7 (io), 108 P0H.0/AD8 (io), 109 VDD (power), 110 VSS (power), 111 P0H.1/AD9 (io), 112 P0H.2/AD10 (io), 113 P0H.3/AD11 (io), 114 P0H.4/AD12 (io), 115 P0H.5/AD13 (io), 116 P0H.6/AD14 (io), 117 P0H.7/AD15 (io), 118 P1L.0/A0 (io), 119 P1L.1/A1 (io), 120 P1L.2/A2 (io), 121 P1L.3/A3 (io), 122 P1L.4/A4 (io), 123 P1L.5/A5 (io), 124 P1L.6/A6 (io), 125 P1L.7/A7 (io), 126 VDD (power), 127 VSS (power), 128 P1H.0/A8 (io), 129 P1H.1/A9 (io), 130 P1H.2/A10 (io), 131 P1H.3/A11 (io), 132 P1H.4/A12/CC24IO (io), 133 P1H.5/A13/CC25IO (io), 134 P1H.6/A14/CC26IO (io), 135 P1H.7/A15/CC27IO (io), 136 VDD (power), 137 XTAL2 (out), 138 XTAL1 (in), 139 VSS (power), 140 ~{RSTIN} (in), 141 ~{RSTOUT} (out), 142 ~{NMI} (in), 143 VSS (power), 144 VDD (power)

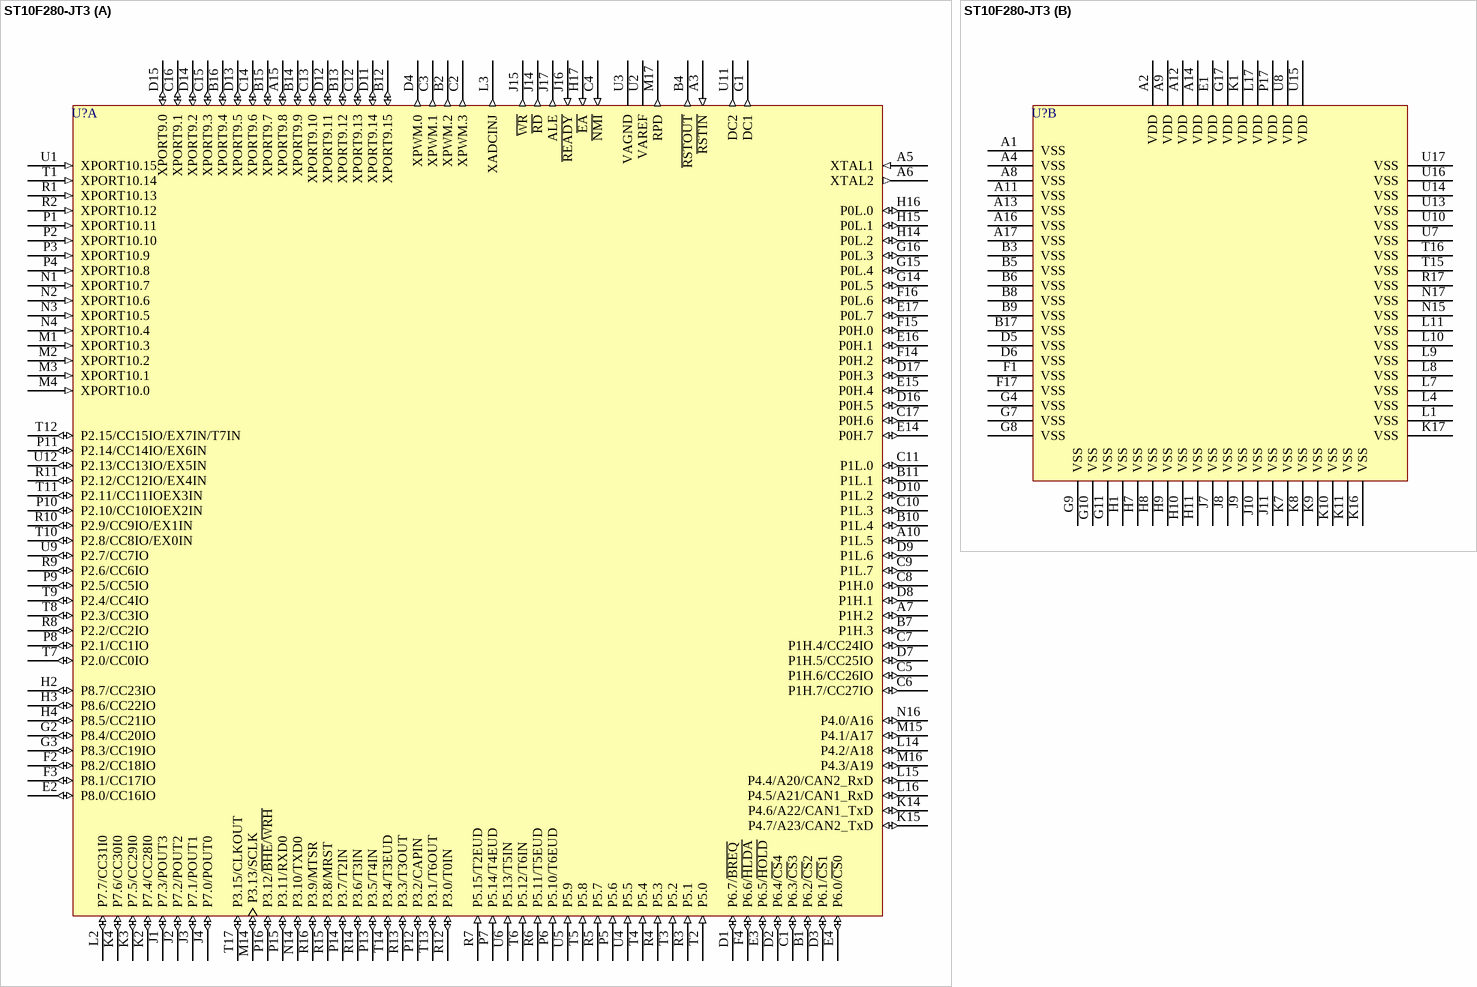
[diagram p14: symbol ST10F280-JT3]